# Altium integrated library BB Converter Data Acquisition System.IntLib: 55 symbols (part 1 of 2)
Pins are listed as number, name and electrical type; pins without a type are passive.

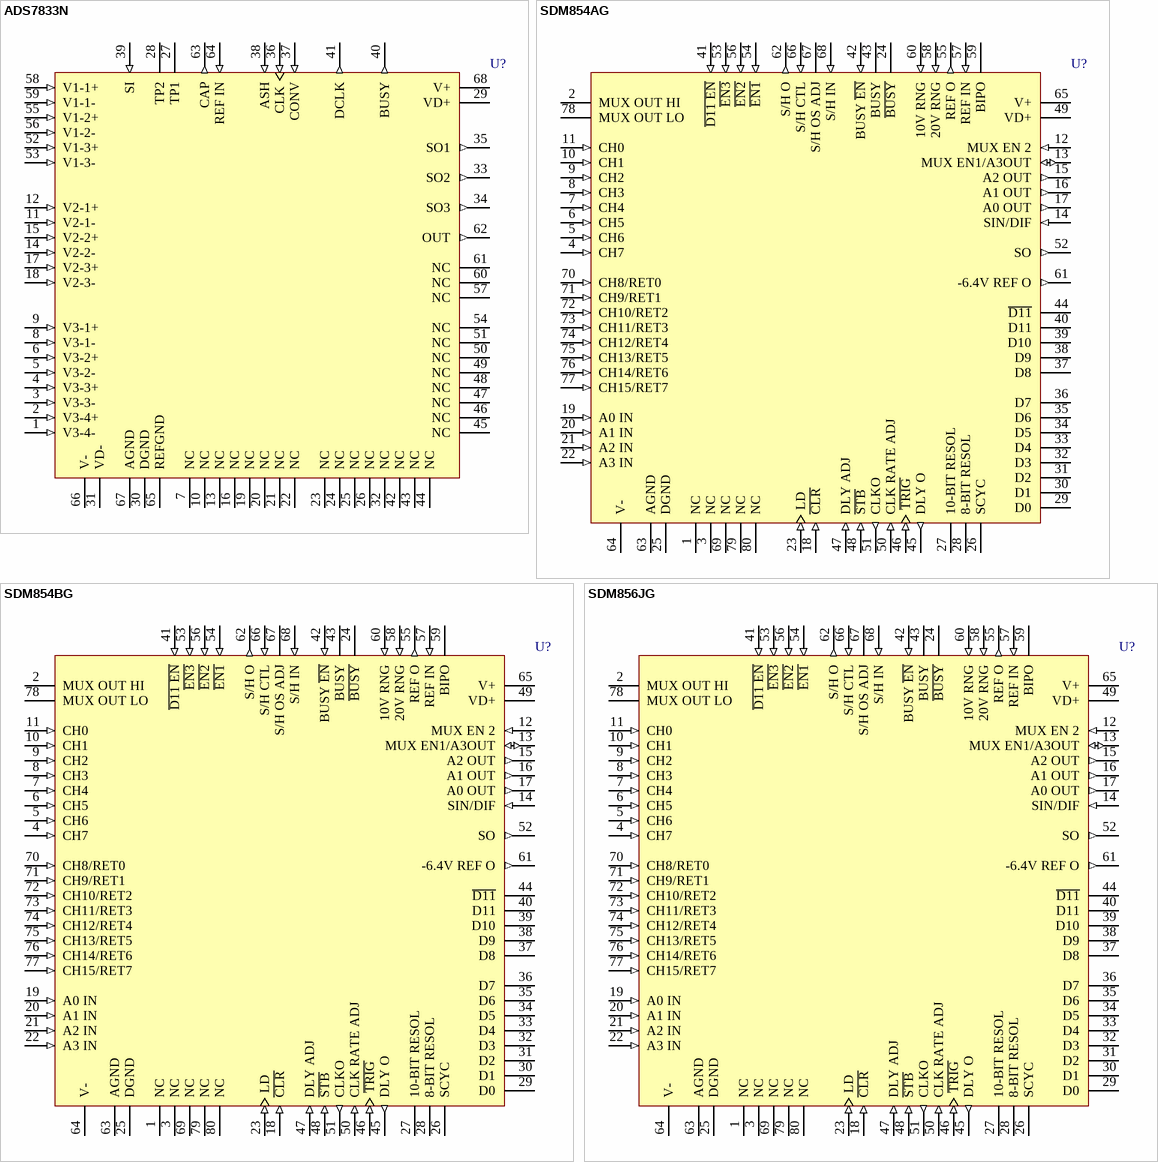
[diagram p0: symbols ADS7833N to SDM856JG]

## ADS7833N
designator U?
10-Channel, 12-Bit Data Acquisition System; Note: Pins 7, 10, 13, 16, 19-26, 32, 42-51, 54, 57, 60 and 61 are No internal Connection (NC) pins. Make no connection to 'Test Point' pins 27 and 28.; Published: 8-Jun-2000; LatestRevisionDate: 13-Apr-2006; LatestRevisionNote: IPC-7351 Footprint Added.; DatasheetVersion: 1996~1997; PackageVersion: 1994; PackageReference: 312-1; Publisher: Altium Limited; PackageDescription: 68-Pin Leaded Chip Carrier 1.27 mm Pitch; Code_IPC: PLCC-68; ComponentLink1Description: Manufacturer Link; ComponentLink1URL: http://www.ti.com/
footprint 312-1_N (Leaded Chip Carrier, 68-Leads, Body 24.2x24.2mm, Pitch 1.27mm, IPC Medium Density)
footprint 312-1_L (Leaded Chip Carrier, 68-Leads, Body 24.2x24.2mm, Pitch 1.27mm, IPC High Density)
footprint 312-1_M (Leaded Chip Carrier, 68-Leads, Body 24.2x24.2mm, Pitch 1.27mm, IPC Low Density)
3D model ADS7833N-LCC68 (68-Pin Leaded Chip Carrier 1.27 mm Pitch)
pins: 1 V3-4- (in), 2 V3-4+ (in), 3 V3-3- (in), 4 V3-3+ (in), 5 V3-2- (in), 6 V3-2+ (in), 7 NC, 8 V3-1- (in), 9 V3-1+ (in), 10 NC, 11 V2-1- (in), 12 V2-1+ (in), 13 NC, 14 V2-2- (in), 15 V2-2+ (in), 16 NC, 17 V2-3+ (in), 18 V2-3- (in), 19 NC, 20 NC, 21 NC, 22 NC, 23 NC, 24 NC, 25 NC, 26 NC, 27 TP1, 28 TP2, 29 VD+ (power), 30 DGND (power), 31 VD- (power), 32 NC, 33 SO2 (out), 34 SO3 (out), 35 SO1 (out), 36 CLK (in), 37 CONV (in), 38 ASH (in), 39 SI (in), 40 BUSY (out), 41 DCLK (out), 42 NC, 43 NC, 44 NC, 45 NC, 46 NC, 47 NC, 48 NC, 49 NC, 50 NC, 51 NC, 52 V1-3+ (in), 53 V1-3- (in), 54 NC, 55 V1-2+ (in), 56 V1-2- (in), 57 NC, 58 V1-1+ (in), 59 V1-1- (in), 60 NC, 61 NC, 62 OUT (out), 63 CAP (out), 64 REF IN (in), 65 REFGND (power), 66 V- (power), 67 AGND (power), 68 V+ (power)

## SDM854AG
designator U?
Hybrid Data Acquisition System; Note: Pins 1, 3, 27, 69, 79 and 80 are No internal Connection (NC) pins.; Published: 8-Jun-2000; LatestRevisionDate: 06-Jun-2005; LatestRevisionNote: Stylized 3D Model Added.; DatasheetVersion: Apr-1990; PackageReference: QUIP80; Publisher: Altium Limited; PackageDescription: QUIP; 80 Leads, in two Staggered Rows, each of 2.54 mm pitch; ComponentLink1Description: Manufacturer Link; ComponentLink1URL: http://www.ti.com/
footprint QUIP80 (QUIP; 80 Leads, in two Staggered Rows, each of 27.94 mm pitch)
3D model QUIP80 (QUIP; 80 Leads, in two Staggered Rows, each of 2.54 mm pitch)
pins: 1 NC, 2 MUX OUT HI, 3 NC, 4 CH7 (in), 5 CH6 (in), 6 CH5 (in), 7 CH4 (in), 8 CH3 (in), 9 CH2 (in), 10 CH1 (in), 11 CH0 (in), 12 MUX EN 2 (in), 13 MUX EN1/A3OUT (io), 14 SIN/DIF (in), 15 A2 OUT (out), 16 A1 OUT (out), 17 A0 OUT (out), 18 ~{CLR} (in), 19 A0 IN (in), 20 A1 IN (in), 21 A2 IN (in), 22 A3 IN (in), 23 LD (in), 24 ~{BUSY} (hiz), 25 DGND (power), 26 SCYC, 27 10-BIT RESOL, 28 8-BIT RESOL, 29 D0 (hiz), 30 D1 (hiz), 31 D2 (hiz), 32 D3 (hiz), 33 D4 (hiz), 34 D5 (hiz), 35 D6 (hiz), 36 D7 (hiz), 37 D8 (hiz), 38 D9 (hiz), 39 D10 (hiz), 40 D11 (hiz), 41 ~{D11 EN} (in), 42 BUSY ~{EN} (in), 43 BUSY (hiz), 44 ~{D11} (hiz), 45 DLY O (out), 46 ~{TRIG} (in), 47 DLY ADJ (in), 48 ~{STB} (in), 49 VD+ (power), 50 CLK RATE ADJ (in), 51 CLKO (out), 52 SO (out), 53 ~{EN3} (in), 54 ~{EN1} (in), 55 REF O (out), 56 ~{EN2} (in), 57 REF IN (in), 58 20V RNG (in), 59 BIPO, 60 10V RNG (in), 61 -6.4V REF O (out), 62 S/H O (out), 63 AGND (power), 64 V- (power), 65 V+ (power), 66 S/H CTL (in), 67 S/H OS ADJ, 68 S/H IN (in), 69 NC, 70 CH8/RET0 (in), 71 CH9/RET1 (in), 72 CH10/RET2 (in), 73 CH11/RET3 (in), 74 CH12/RET4 (in), 75 CH13/RET5 (in), 76 CH14/RET6 (in), 77 CH15/RET7 (in), 78 MUX OUT LO, 79 NC, 80 NC

## SDM854BG
designator U?
Hybrid Data Acquisition System; Note: Pins 1, 3, 27, 69, 79 and 80 are No internal Connection (NC) pins.; Published: 8-Jun-2000; LatestRevisionDate: 06-Jun-2005; LatestRevisionNote: Stylized 3D Model Added.; DatasheetVersion: Apr-1990; PackageReference: QUIP80; Publisher: Altium Limited; PackageDescription: QUIP; 80 Leads, in two Staggered Rows, each of 2.54 mm pitch; ComponentLink1Description: Manufacturer Link; ComponentLink1URL: http://www.ti.com/
footprint QUIP80 (QUIP; 80 Leads, in two Staggered Rows, each of 27.94 mm pitch)
3D model QUIP80 (QUIP; 80 Leads, in two Staggered Rows, each of 2.54 mm pitch)
pins: 1 NC, 2 MUX OUT HI, 3 NC, 4 CH7 (in), 5 CH6 (in), 6 CH5 (in), 7 CH4 (in), 8 CH3 (in), 9 CH2 (in), 10 CH1 (in), 11 CH0 (in), 12 MUX EN 2 (in), 13 MUX EN1/A3OUT (io), 14 SIN/DIF (in), 15 A2 OUT (out), 16 A1 OUT (out), 17 A0 OUT (out), 18 ~{CLR} (in), 19 A0 IN (in), 20 A1 IN (in), 21 A2 IN (in), 22 A3 IN (in), 23 LD (in), 24 ~{BUSY} (hiz), 25 DGND (power), 26 SCYC, 27 10-BIT RESOL, 28 8-BIT RESOL, 29 D0 (hiz), 30 D1 (hiz), 31 D2 (hiz), 32 D3 (hiz), 33 D4 (hiz), 34 D5 (hiz), 35 D6 (hiz), 36 D7 (hiz), 37 D8 (hiz), 38 D9 (hiz), 39 D10 (hiz), 40 D11 (hiz), 41 ~{D11 EN} (in), 42 BUSY ~{EN} (in), 43 BUSY (hiz), 44 ~{D11} (hiz), 45 DLY O (out), 46 ~{TRIG} (in), 47 DLY ADJ (in), 48 ~{STB} (in), 49 VD+ (power), 50 CLK RATE ADJ (in), 51 CLKO (out), 52 SO (out), 53 ~{EN3} (in), 54 ~{EN1} (in), 55 REF O (out), 56 ~{EN2} (in), 57 REF IN (in), 58 20V RNG (in), 59 BIPO, 60 10V RNG (in), 61 -6.4V REF O (out), 62 S/H O (out), 63 AGND (power), 64 V- (power), 65 V+ (power), 66 S/H CTL (in), 67 S/H OS ADJ, 68 S/H IN (in), 69 NC, 70 CH8/RET0 (in), 71 CH9/RET1 (in), 72 CH10/RET2 (in), 73 CH11/RET3 (in), 74 CH12/RET4 (in), 75 CH13/RET5 (in), 76 CH14/RET6 (in), 77 CH15/RET7 (in), 78 MUX OUT LO, 79 NC, 80 NC

## SDM856JG
designator U?
Hybrid Data Acquisition System; Note: Pins 1, 3, 69, 79 and 80 are No internal Connection (NC) pins.; Published: 8-Jun-2000; LatestRevisionDate: 06-Jun-2005; LatestRevisionNote: Stylized 3D Model Added.; DatasheetVersion: Aug-1987; PackageReference: QUIP80; Publisher: Altium Limited; PackageDescription: QUIP; 80 Leads, in two Staggered Rows, each of 2.54 mm pitch; ComponentLink1Description: Manufacturer Link; ComponentLink1URL: http://www.ti.com/
footprint QUIP80 (QUIP; 80 Leads, in two Staggered Rows, each of 27.94 mm pitch)
3D model QUIP80 (QUIP; 80 Leads, in two Staggered Rows, each of 2.54 mm pitch)
pins: 1 NC, 2 MUX OUT HI, 3 NC, 4 CH7 (in), 5 CH6 (in), 6 CH5 (in), 7 CH4 (in), 8 CH3 (in), 9 CH2 (in), 10 CH1 (in), 11 CH0 (in), 12 MUX EN 2 (in), 13 MUX EN1/A3OUT (io), 14 SIN/DIF (in), 15 A2 OUT (out), 16 A1 OUT (out), 17 A0 OUT (out), 18 ~{CLR} (in), 19 A0 IN (in), 20 A1 IN (in), 21 A2 IN (in), 22 A3 IN (in), 23 LD (in), 24 ~{BUSY} (hiz), 25 DGND (power), 26 SCYC, 27 10-BIT RESOL, 28 8-BIT RESOL, 29 D0 (hiz), 30 D1 (hiz), 31 D2 (hiz), 32 D3 (hiz), 33 D4 (hiz), 34 D5 (hiz), 35 D6 (hiz), 36 D7 (hiz), 37 D8 (hiz), 38 D9 (hiz), 39 D10 (hiz), 40 D11 (hiz), 41 ~{D11 EN} (in), 42 BUSY ~{EN} (in), 43 BUSY (hiz), 44 ~{D11} (hiz), 45 DLY O (out), 46 ~{TRIG} (in), 47 DLY ADJ (in), 48 ~{STB} (in), 49 VD+ (power), 50 CLK RATE ADJ (in), 51 CLKO (out), 52 SO (out), 53 ~{EN3} (in), 54 ~{EN1} (in), 55 REF O (out), 56 ~{EN2} (in), 57 REF IN (in), 58 20V RNG (in), 59 BIPO, 60 10V RNG (in), 61 -6.4V REF O (out), 62 S/H O (out), 63 AGND (power), 64 V- (power), 65 V+ (power), 66 S/H CTL (in), 67 S/H OS ADJ, 68 S/H IN (in), 69 NC, 70 CH8/RET0 (in), 71 CH9/RET1 (in), 72 CH10/RET2 (in), 73 CH11/RET3 (in), 74 CH12/RET4 (in), 75 CH13/RET5 (in), 76 CH14/RET6 (in), 77 CH15/RET7 (in), 78 MUX OUT LO, 79 NC, 80 NC

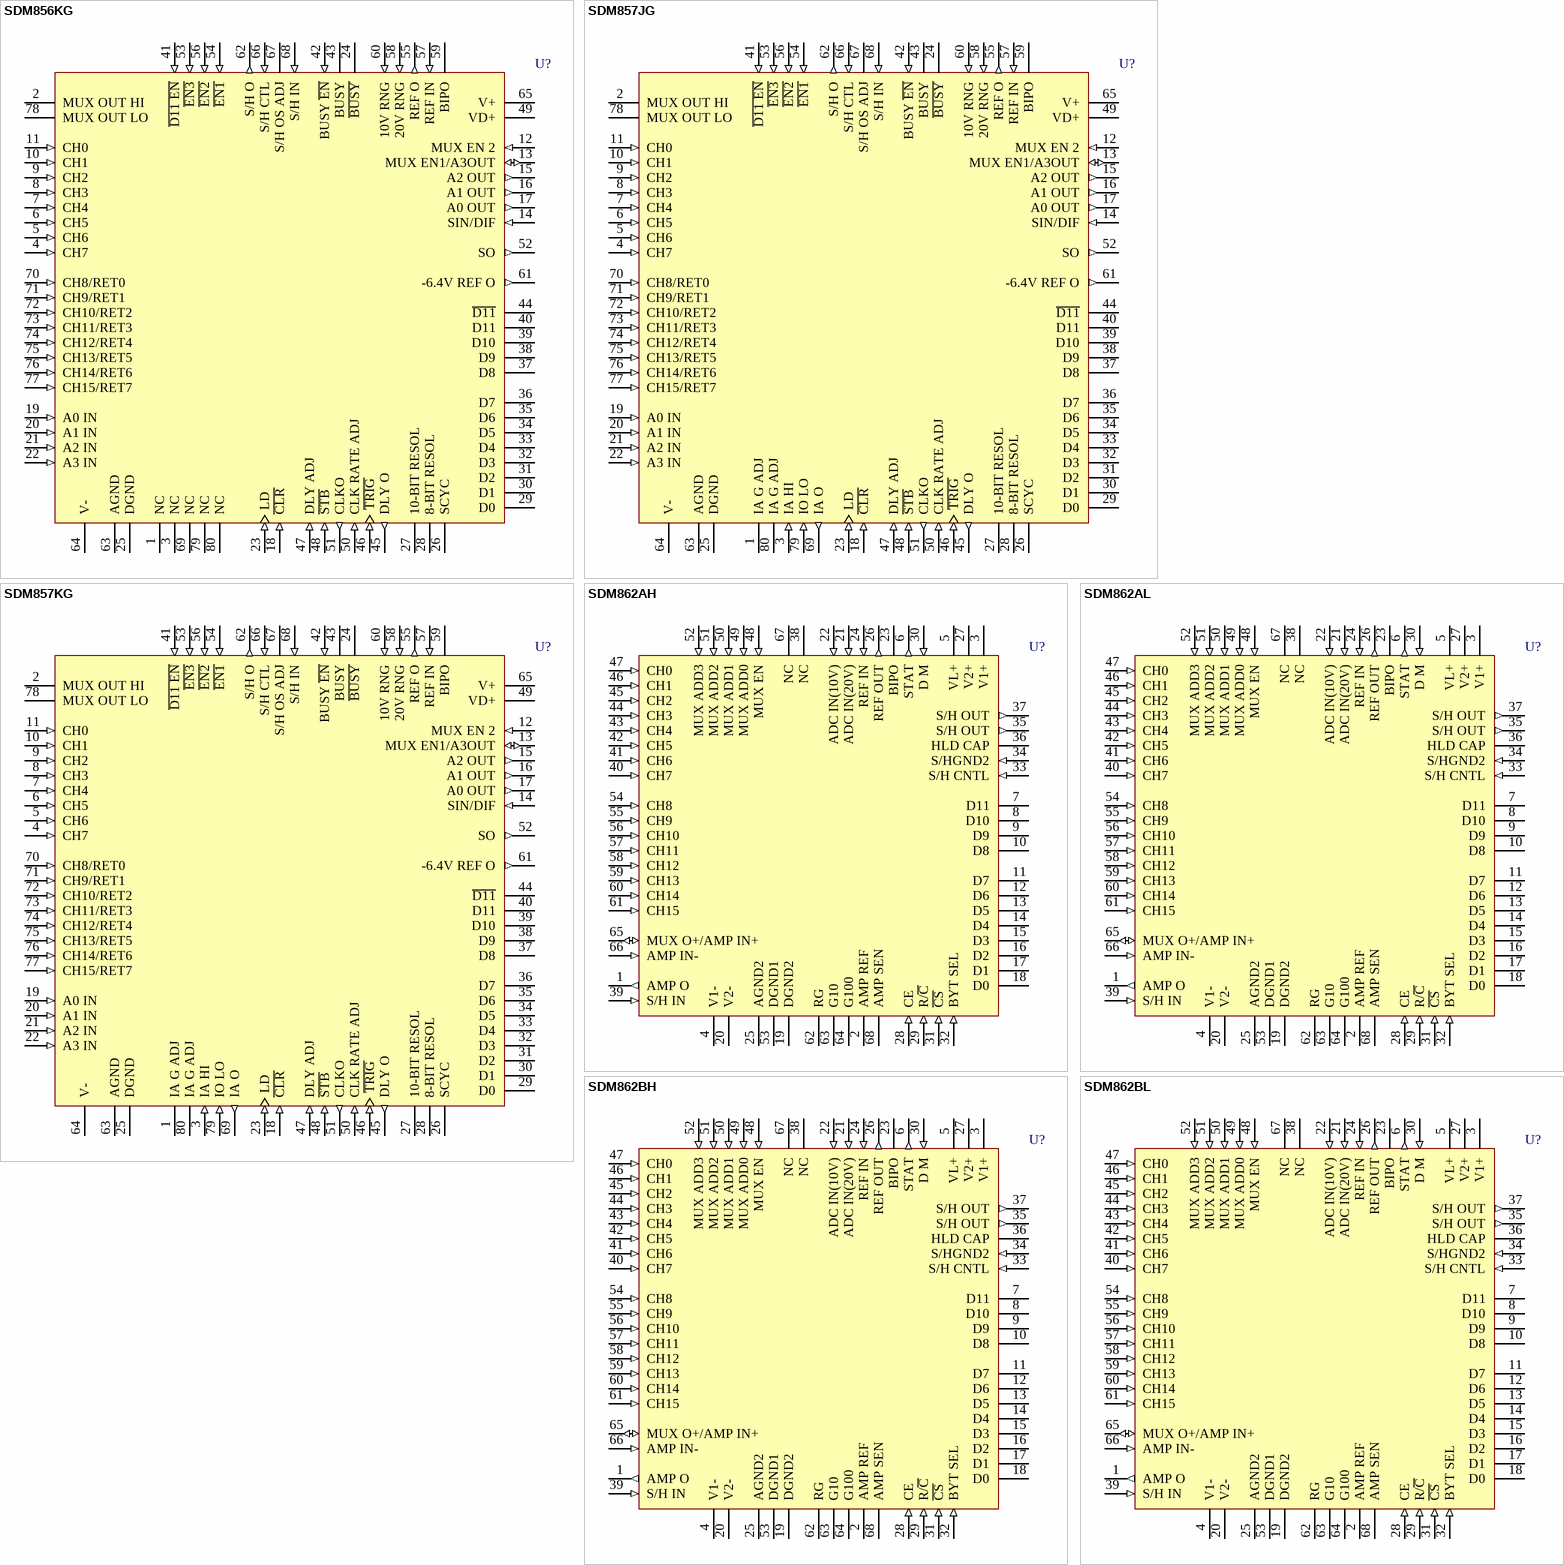
[diagram p1: symbols SDM856KG to SDM862BL]

## SDM856KG
designator U?
Hybrid Data Acquisition System; Note: Pins 1, 3, 69, 79 and 80 are No internal Connection (NC) pins.; Published: 8-Jun-2000; LatestRevisionDate: 06-Jun-2005; LatestRevisionNote: Stylized 3D Model Added.; DatasheetVersion: Aug-1987; PackageReference: QUIP80; Publisher: Altium Limited; PackageDescription: QUIP; 80 Leads, in two Staggered Rows, each of 2.54 mm pitch; ComponentLink1Description: Manufacturer Link; ComponentLink1URL: http://www.ti.com/
footprint QUIP80 (QUIP; 80 Leads, in two Staggered Rows, each of 27.94 mm pitch)
3D model QUIP80 (QUIP; 80 Leads, in two Staggered Rows, each of 2.54 mm pitch)
pins: 1 NC, 2 MUX OUT HI, 3 NC, 4 CH7 (in), 5 CH6 (in), 6 CH5 (in), 7 CH4 (in), 8 CH3 (in), 9 CH2 (in), 10 CH1 (in), 11 CH0 (in), 12 MUX EN 2 (in), 13 MUX EN1/A3OUT (io), 14 SIN/DIF (in), 15 A2 OUT (out), 16 A1 OUT (out), 17 A0 OUT (out), 18 ~{CLR} (in), 19 A0 IN (in), 20 A1 IN (in), 21 A2 IN (in), 22 A3 IN (in), 23 LD (in), 24 ~{BUSY} (hiz), 25 DGND (power), 26 SCYC, 27 10-BIT RESOL, 28 8-BIT RESOL, 29 D0 (hiz), 30 D1 (hiz), 31 D2 (hiz), 32 D3 (hiz), 33 D4 (hiz), 34 D5 (hiz), 35 D6 (hiz), 36 D7 (hiz), 37 D8 (hiz), 38 D9 (hiz), 39 D10 (hiz), 40 D11 (hiz), 41 ~{D11 EN} (in), 42 BUSY ~{EN} (in), 43 BUSY (hiz), 44 ~{D11} (hiz), 45 DLY O (out), 46 ~{TRIG} (in), 47 DLY ADJ (in), 48 ~{STB} (in), 49 VD+ (power), 50 CLK RATE ADJ (in), 51 CLKO (out), 52 SO (out), 53 ~{EN3} (in), 54 ~{EN1} (in), 55 REF O (out), 56 ~{EN2} (in), 57 REF IN (in), 58 20V RNG (in), 59 BIPO, 60 10V RNG (in), 61 -6.4V REF O (out), 62 S/H O (out), 63 AGND (power), 64 V- (power), 65 V+ (power), 66 S/H CTL (in), 67 S/H OS ADJ, 68 S/H IN (in), 69 NC, 70 CH8/RET0 (in), 71 CH9/RET1 (in), 72 CH10/RET2 (in), 73 CH11/RET3 (in), 74 CH12/RET4 (in), 75 CH13/RET5 (in), 76 CH14/RET6 (in), 77 CH15/RET7 (in), 78 MUX OUT LO, 79 NC, 80 NC

## SDM857JG
designator U?
Hybrid Data Acquisition System; Note: Pins 14, 27, 28, 41, 44, 47, 60 and 61 are No internal Connection (NC) pins.; Published: 8-Jun-2000; LatestRevisionDate: 06-Jun-2005; LatestRevisionNote: Stylized 3D Model Added.; DatasheetVersion: Aug-1987; PackageReference: QUIP80; Publisher: Altium Limited; PackageDescription: QUIP; 80 Leads, in two Staggered Rows, each of 2.54 mm pitch; ComponentLink1Description: Manufacturer Link; ComponentLink1URL: http://www.ti.com/
footprint QUIP80 (QUIP; 80 Leads, in two Staggered Rows, each of 27.94 mm pitch)
3D model QUIP80 (QUIP; 80 Leads, in two Staggered Rows, each of 2.54 mm pitch)
pins: 1 IA G ADJ, 2 MUX OUT HI, 3 IA HI (in), 4 CH7 (in), 5 CH6 (in), 6 CH5 (in), 7 CH4 (in), 8 CH3 (in), 9 CH2 (in), 10 CH1 (in), 11 CH0 (in), 12 MUX EN 2 (in), 13 MUX EN1/A3OUT (io), 14 SIN/DIF (in), 15 A2 OUT (out), 16 A1 OUT (out), 17 A0 OUT (out), 18 ~{CLR} (in), 19 A0 IN (in), 20 A1 IN (in), 21 A2 IN (in), 22 A3 IN (in), 23 LD (in), 24 ~{BUSY} (hiz), 25 DGND (power), 26 SCYC, 27 10-BIT RESOL, 28 8-BIT RESOL, 29 D0 (hiz), 30 D1 (hiz), 31 D2 (hiz), 32 D3 (hiz), 33 D4 (hiz), 34 D5 (hiz), 35 D6 (hiz), 36 D7 (hiz), 37 D8 (hiz), 38 D9 (hiz), 39 D10 (hiz), 40 D11 (hiz), 41 ~{D11 EN} (in), 42 BUSY ~{EN} (in), 43 BUSY (hiz), 44 ~{D11} (hiz), 45 DLY O (out), 46 ~{TRIG} (in), 47 DLY ADJ (in), 48 ~{STB} (in), 49 VD+ (power), 50 CLK RATE ADJ (in), 51 CLKO (out), 52 SO (out), 53 ~{EN3} (in), 54 ~{EN1} (in), 55 REF O (out), 56 ~{EN2} (in), 57 REF IN (in), 58 20V RNG (in), 59 BIPO, 60 10V RNG (in), 61 -6.4V REF O (out), 62 S/H O (out), 63 AGND (power), 64 V- (power), 65 V+ (power), 66 S/H CTL (in), 67 S/H OS ADJ, 68 S/H IN (in), 69 IA O (out), 70 CH8/RET0 (in), 71 CH9/RET1 (in), 72 CH10/RET2 (in), 73 CH11/RET3 (in), 74 CH12/RET4 (in), 75 CH13/RET5 (in), 76 CH14/RET6 (in), 77 CH15/RET7 (in), 78 MUX OUT LO, 79 IO LO (in), 80 IA G ADJ

## SDM857KG
designator U?
Hybrid Data Acquisition System; Note: Pins 14, 27, 28, 41, 44, 47, 60 and 61 are No internal Connection (NC) pins.; Published: 8-Jun-2000; LatestRevisionDate: 06-Jun-2005; LatestRevisionNote: Stylized 3D Model Added.; DatasheetVersion: Aug-1987; PackageReference: QUIP80; Publisher: Altium Limited; PackageDescription: QUIP; 80 Leads, in two Staggered Rows, each of 2.54 mm pitch; ComponentLink1Description: Manufacturer Link; ComponentLink1URL: http://www.ti.com/
footprint QUIP80 (QUIP; 80 Leads, in two Staggered Rows, each of 27.94 mm pitch)
3D model QUIP80 (QUIP; 80 Leads, in two Staggered Rows, each of 2.54 mm pitch)
pins: 1 IA G ADJ, 2 MUX OUT HI, 3 IA HI (in), 4 CH7 (in), 5 CH6 (in), 6 CH5 (in), 7 CH4 (in), 8 CH3 (in), 9 CH2 (in), 10 CH1 (in), 11 CH0 (in), 12 MUX EN 2 (in), 13 MUX EN1/A3OUT (io), 14 SIN/DIF (in), 15 A2 OUT (out), 16 A1 OUT (out), 17 A0 OUT (out), 18 ~{CLR} (in), 19 A0 IN (in), 20 A1 IN (in), 21 A2 IN (in), 22 A3 IN (in), 23 LD (in), 24 ~{BUSY} (hiz), 25 DGND (power), 26 SCYC, 27 10-BIT RESOL, 28 8-BIT RESOL, 29 D0 (hiz), 30 D1 (hiz), 31 D2 (hiz), 32 D3 (hiz), 33 D4 (hiz), 34 D5 (hiz), 35 D6 (hiz), 36 D7 (hiz), 37 D8 (hiz), 38 D9 (hiz), 39 D10 (hiz), 40 D11 (hiz), 41 ~{D11 EN} (in), 42 BUSY ~{EN} (in), 43 BUSY (hiz), 44 ~{D11} (hiz), 45 DLY O (out), 46 ~{TRIG} (in), 47 DLY ADJ (in), 48 ~{STB} (in), 49 VD+ (power), 50 CLK RATE ADJ (in), 51 CLKO (out), 52 SO (out), 53 ~{EN3} (in), 54 ~{EN1} (in), 55 REF O (out), 56 ~{EN2} (in), 57 REF IN (in), 58 20V RNG (in), 59 BIPO, 60 10V RNG (in), 61 -6.4V REF O (out), 62 S/H O (out), 63 AGND (power), 64 V- (power), 65 V+ (power), 66 S/H CTL (in), 67 S/H OS ADJ, 68 S/H IN (in), 69 IA O (out), 70 CH8/RET0 (in), 71 CH9/RET1 (in), 72 CH10/RET2 (in), 73 CH11/RET3 (in), 74 CH12/RET4 (in), 75 CH13/RET5 (in), 76 CH14/RET6 (in), 77 CH15/RET7 (in), 78 MUX OUT LO, 79 IO LO (in), 80 IA G ADJ

## SDM862AH
designator U?
16 Single Ended 12-Bit Data Acquisition Systems; Note: Pin 38 is No internal Connection (NC) pin.; Published: 8-Jun-2000; LatestRevisionDate: 06-Jun-2005; LatestRevisionNote: Stylized 3D Model Added.; DatasheetVersion: 1996~1997; PackageReference: 906; Publisher: Altium Limited; PackageDescription: Leadless Chip Carrier; 68 Terminals; Body 24.3 x 24.3 mm; ComponentLink1Description: Manufacturer Link; ComponentLink1URL: http://www.ti.com/
footprint 906 (Leadless Chip Carrier; 68 Terminals; Body 24.3 x 24.3 mm)
3D model SDM862A-LCC68 (Leadless Chip Carrier; 68 Terminals; Body 24.3 x 24.3 mm)
pins: 1 AMP O (out), 2 AMP REF, 3 V1+ (power), 4 V1- (power), 5 VL+ (power), 6 STAT (out), 7 D11 (hiz), 8 D10 (hiz), 9 D9 (hiz), 10 D8 (hiz), 11 D7 (hiz), 12 D6 (hiz), 13 D5 (hiz), 14 D4 (hiz), 15 D3 (hiz), 16 D2 (hiz), 17 D1 (hiz), 18 D0 (hiz), 19 DGND2 (power), 20 V2- (power), 21 ADC IN(20V) (in), 22 ADC IN(10V) (in), 23 BIPO, 24 REF IN (in), 25 AGND2 (power), 26 REF OUT (out), 27 V2+ (power), 28 CE (in), 29 R/~{C} (in), 30 D M (in), 31 ~{CS} (in), 32 BYT SEL (in), 33 S/H CNTL (in), 34 S/HGND2 (in), 35 S/H OUT (out), 36 HLD CAP, 37 S/H OUT (out), 38 NC, 39 S/H IN (in), 40 CH7 (in), 41 CH6 (in), 42 CH5 (in), 43 CH4 (in), 44 CH3 (in), 45 CH2 (in), 46 CH1 (in), 47 CH0 (in), 48 MUX EN (in), 49 MUX ADD0 (in), 50 MUX ADD1 (in), 51 MUX ADD2 (in), 52 MUX ADD3 (in), 53 DGND1 (power), 54 CH8 (in), 55 CH9 (in), 56 CH10 (in), 57 CH11 (in), 58 CH12 (in), 59 CH13 (in), 60 CH14 (in), 61 CH15 (in), 62 RG, 63 G10, 64 G100, 65 MUX O+/AMP IN+ (io), 66 AMP IN- (in), 67 NC, 68 AMP SEN

## SDM862AL
designator U?
16 Single Ended 12-Bit Data Acquisition Systems; Note: Pin 38 is No internal Connection (NC) pin.; Published: 8-Jun-2000; LatestRevisionDate: 06-Jun-2005; LatestRevisionNote: Stylized 3D Model Added.; DatasheetVersion: 1996~1997; PackageReference: ZZ907; Publisher: Altium Limited; PackageDescription: 68-Pin Pin Grid Array 2.54 mm Pitch; ComponentLink1Description: Manufacturer Link; ComponentLink1URL: http://www.ti.com/
footprint ZZ907 (PGA, 68-Leads, Body 28x28mm, Pitch 2.54mm)
3D model SDM862A-PGA68 (68-Pin Pin Grid Array 2.54 mm Pitch)
pins: 1 AMP O (out), 2 AMP REF, 3 V1+ (power), 4 V1- (power), 5 VL+ (power), 6 STAT (out), 7 D11 (hiz), 8 D10 (hiz), 9 D9 (hiz), 10 D8 (hiz), 11 D7 (hiz), 12 D6 (hiz), 13 D5 (hiz), 14 D4 (hiz), 15 D3 (hiz), 16 D2 (hiz), 17 D1 (hiz), 18 D0 (hiz), 19 DGND2 (power), 20 V2- (power), 21 ADC IN(20V) (in), 22 ADC IN(10V) (in), 23 BIPO, 24 REF IN (in), 25 AGND2 (power), 26 REF OUT (out), 27 V2+ (power), 28 CE (in), 29 R/~{C} (in), 30 D M (in), 31 ~{CS} (in), 32 BYT SEL (in), 33 S/H CNTL (in), 34 S/HGND2 (in), 35 S/H OUT (out), 36 HLD CAP, 37 S/H OUT (out), 38 NC, 39 S/H IN (in), 40 CH7 (in), 41 CH6 (in), 42 CH5 (in), 43 CH4 (in), 44 CH3 (in), 45 CH2 (in), 46 CH1 (in), 47 CH0 (in), 48 MUX EN (in), 49 MUX ADD0 (in), 50 MUX ADD1 (in), 51 MUX ADD2 (in), 52 MUX ADD3 (in), 53 DGND1 (power), 54 CH8 (in), 55 CH9 (in), 56 CH10 (in), 57 CH11 (in), 58 CH12 (in), 59 CH13 (in), 60 CH14 (in), 61 CH15 (in), 62 RG, 63 G10, 64 G100, 65 MUX O+/AMP IN+ (io), 66 AMP IN- (in), 67 NC, 68 AMP SEN

## SDM862BH
designator U?
16 Single Ended 12-Bit Data Acquisition Systems; Note: Pin 38 is No internal Connection (NC) pin.; Published: 8-Jun-2000; LatestRevisionDate: 06-Jun-2005; LatestRevisionNote: Stylized 3D Model Added.; DatasheetVersion: 1996~1997; PackageReference: 906; Publisher: Altium Limited; PackageDescription: Leadless Chip Carrier; 68 Terminals; Body 24.3 x 24.3 mm; ComponentLink1Description: Manufacturer Link; ComponentLink1URL: http://www.ti.com/
footprint 906 (Leadless Chip Carrier; 68 Terminals; Body 24.3 x 24.3 mm)
3D model SDM862B-LCC68 (Leadless Chip Carrier; 68 Terminals; Body 24.3 x 24.3 mm)
pins: 1 AMP O (out), 2 AMP REF, 3 V1+ (power), 4 V1- (power), 5 VL+ (power), 6 STAT (out), 7 D11 (hiz), 8 D10 (hiz), 9 D9 (hiz), 10 D8 (hiz), 11 D7 (hiz), 12 D6 (hiz), 13 D5 (hiz), 14 D4 (hiz), 15 D3 (hiz), 16 D2 (hiz), 17 D1 (hiz), 18 D0 (hiz), 19 DGND2 (power), 20 V2- (power), 21 ADC IN(20V) (in), 22 ADC IN(10V) (in), 23 BIPO, 24 REF IN (in), 25 AGND2 (power), 26 REF OUT (out), 27 V2+ (power), 28 CE (in), 29 R/~{C} (in), 30 D M (in), 31 ~{CS} (in), 32 BYT SEL (in), 33 S/H CNTL (in), 34 S/HGND2 (in), 35 S/H OUT (out), 36 HLD CAP, 37 S/H OUT (out), 38 NC, 39 S/H IN (in), 40 CH7 (in), 41 CH6 (in), 42 CH5 (in), 43 CH4 (in), 44 CH3 (in), 45 CH2 (in), 46 CH1 (in), 47 CH0 (in), 48 MUX EN (in), 49 MUX ADD0 (in), 50 MUX ADD1 (in), 51 MUX ADD2 (in), 52 MUX ADD3 (in), 53 DGND1 (power), 54 CH8 (in), 55 CH9 (in), 56 CH10 (in), 57 CH11 (in), 58 CH12 (in), 59 CH13 (in), 60 CH14 (in), 61 CH15 (in), 62 RG, 63 G10, 64 G100, 65 MUX O+/AMP IN+ (io), 66 AMP IN- (in), 67 NC, 68 AMP SEN

## SDM862BL
designator U?
16 Single Ended 12-Bit Data Acquisition Systems; Note: Pin 38 is No internal Connection (NC) pin.; Published: 8-Jun-2000; LatestRevisionDate: 06-Jun-2005; LatestRevisionNote: Stylized 3D Model Added.; DatasheetVersion: 1996~1997; PackageReference: ZZ907; Publisher: Altium Limited; PackageDescription: 68-Pin Pin Grid Array 2.54 mm Pitch; ComponentLink1Description: Manufacturer Link; ComponentLink1URL: http://www.ti.com/
footprint ZZ907 (PGA, 68-Leads, Body 28x28mm, Pitch 2.54mm)
3D model SDM862B-PGA68 (68-Pin Pin Grid Array 2.54 mm Pitch)
pins: 1 AMP O (out), 2 AMP REF, 3 V1+ (power), 4 V1- (power), 5 VL+ (power), 6 STAT (out), 7 D11 (hiz), 8 D10 (hiz), 9 D9 (hiz), 10 D8 (hiz), 11 D7 (hiz), 12 D6 (hiz), 13 D5 (hiz), 14 D4 (hiz), 15 D3 (hiz), 16 D2 (hiz), 17 D1 (hiz), 18 D0 (hiz), 19 DGND2 (power), 20 V2- (power), 21 ADC IN(20V) (in), 22 ADC IN(10V) (in), 23 BIPO, 24 REF IN (in), 25 AGND2 (power), 26 REF OUT (out), 27 V2+ (power), 28 CE (in), 29 R/~{C} (in), 30 D M (in), 31 ~{CS} (in), 32 BYT SEL (in), 33 S/H CNTL (in), 34 S/HGND2 (in), 35 S/H OUT (out), 36 HLD CAP, 37 S/H OUT (out), 38 NC, 39 S/H IN (in), 40 CH7 (in), 41 CH6 (in), 42 CH5 (in), 43 CH4 (in), 44 CH3 (in), 45 CH2 (in), 46 CH1 (in), 47 CH0 (in), 48 MUX EN (in), 49 MUX ADD0 (in), 50 MUX ADD1 (in), 51 MUX ADD2 (in), 52 MUX ADD3 (in), 53 DGND1 (power), 54 CH8 (in), 55 CH9 (in), 56 CH10 (in), 57 CH11 (in), 58 CH12 (in), 59 CH13 (in), 60 CH14 (in), 61 CH15 (in), 62 RG, 63 G10, 64 G100, 65 MUX O+/AMP IN+ (io), 66 AMP IN- (in), 67 NC, 68 AMP SEN

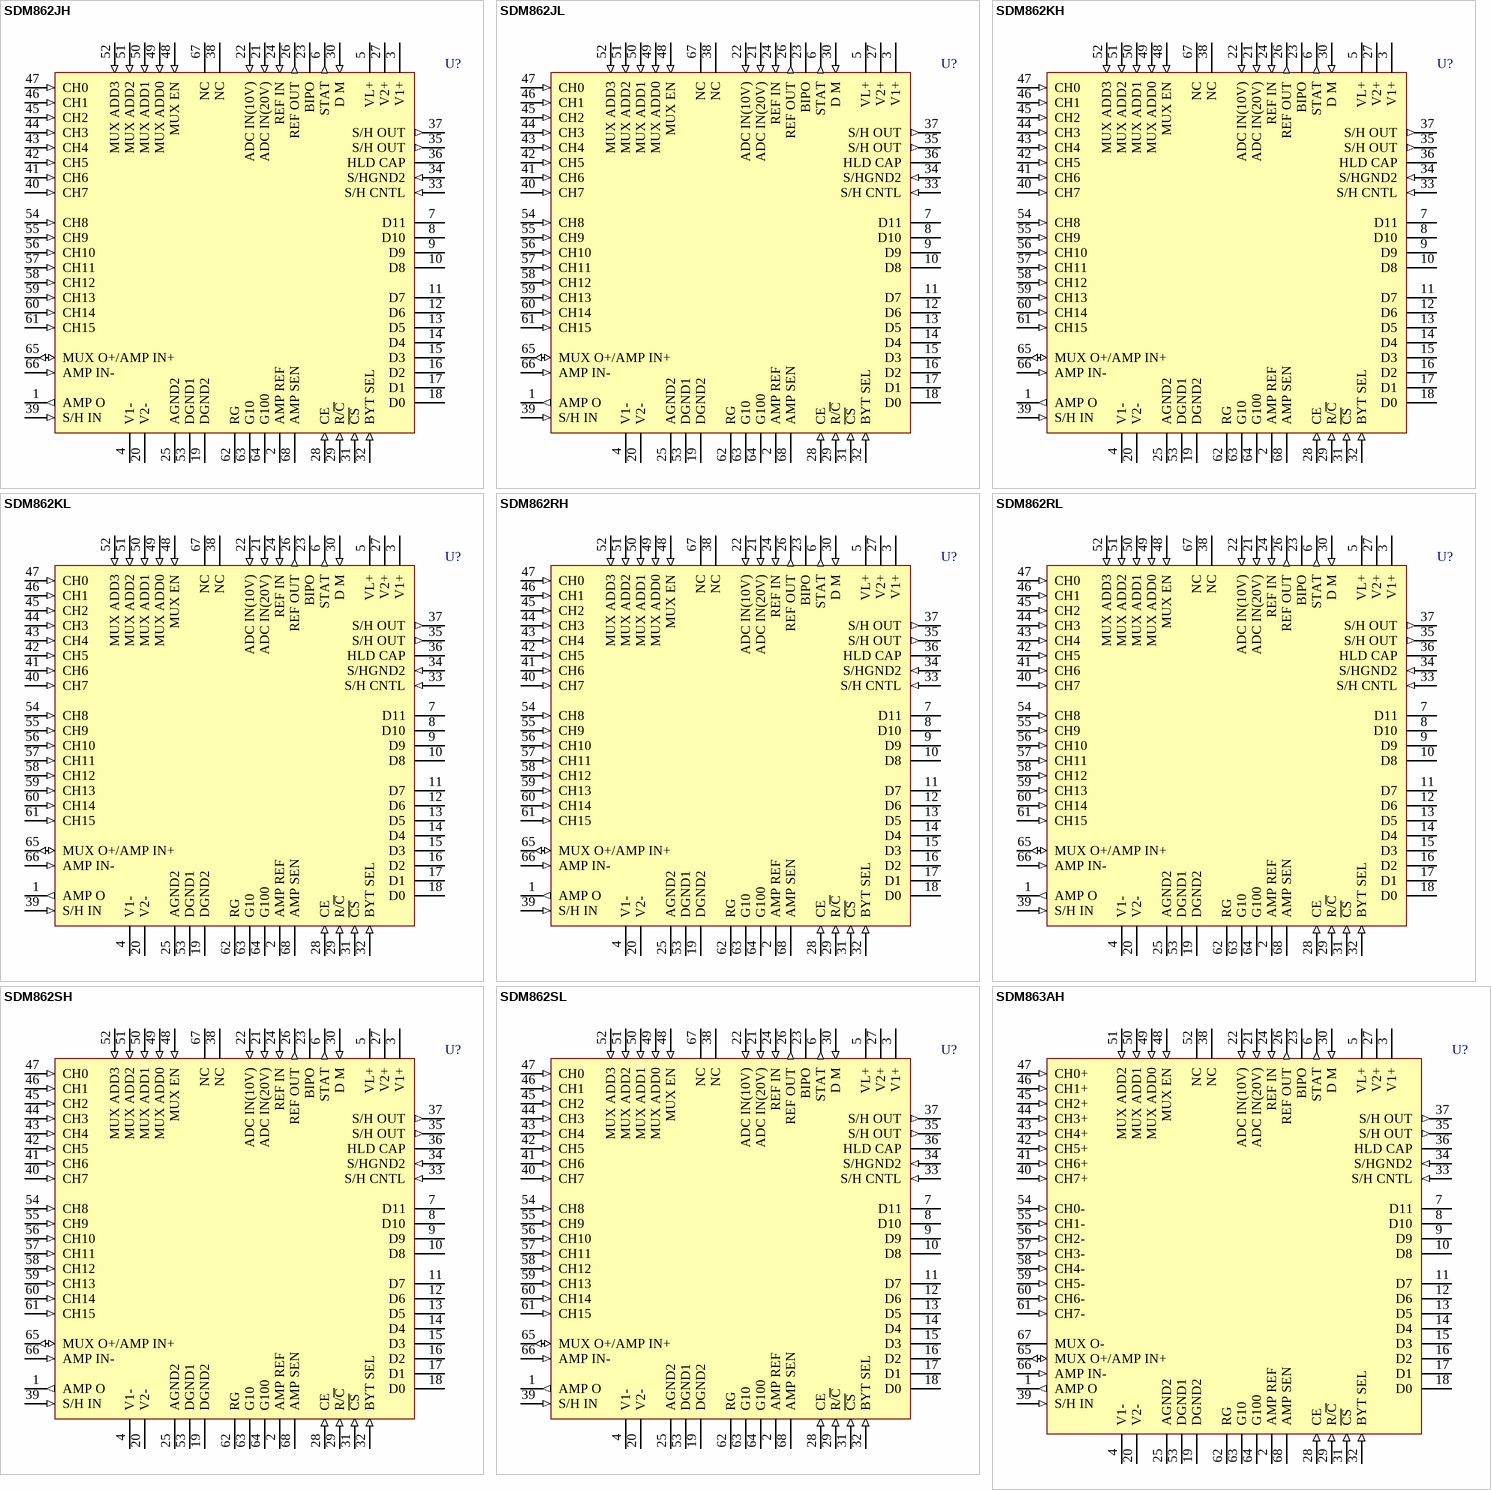
[diagram p2: symbols SDM862JH to SDM863AH]

## SDM862JH
designator U?
16 Single Ended 12-Bit Data Acquisition Systems; Note: Pin 38 is No internal Connection (NC) pin.; Published: 8-Jun-2000; LatestRevisionDate: 06-Jun-2005; LatestRevisionNote: Stylized 3D Model Added.; DatasheetVersion: 1996~1997; PackageReference: 906; Publisher: Altium Limited; PackageDescription: Leadless Chip Carrier; 68 Terminals; Body 24.3 x 24.3 mm; ComponentLink1Description: Manufacturer Link; ComponentLink1URL: http://www.ti.com/
footprint 906 (Leadless Chip Carrier; 68 Terminals; Body 24.3 x 24.3 mm)
3D model SDM862J-LCC68 (Leadless Chip Carrier; 68 Terminals; Body 24.3 x 24.3 mm)
pins: 1 AMP O (out), 2 AMP REF, 3 V1+ (power), 4 V1- (power), 5 VL+ (power), 6 STAT (out), 7 D11 (hiz), 8 D10 (hiz), 9 D9 (hiz), 10 D8 (hiz), 11 D7 (hiz), 12 D6 (hiz), 13 D5 (hiz), 14 D4 (hiz), 15 D3 (hiz), 16 D2 (hiz), 17 D1 (hiz), 18 D0 (hiz), 19 DGND2 (power), 20 V2- (power), 21 ADC IN(20V) (in), 22 ADC IN(10V) (in), 23 BIPO, 24 REF IN (in), 25 AGND2 (power), 26 REF OUT (out), 27 V2+ (power), 28 CE (in), 29 R/~{C} (in), 30 D M (in), 31 ~{CS} (in), 32 BYT SEL (in), 33 S/H CNTL (in), 34 S/HGND2 (in), 35 S/H OUT (out), 36 HLD CAP, 37 S/H OUT (out), 38 NC, 39 S/H IN (in), 40 CH7 (in), 41 CH6 (in), 42 CH5 (in), 43 CH4 (in), 44 CH3 (in), 45 CH2 (in), 46 CH1 (in), 47 CH0 (in), 48 MUX EN (in), 49 MUX ADD0 (in), 50 MUX ADD1 (in), 51 MUX ADD2 (in), 52 MUX ADD3 (in), 53 DGND1 (power), 54 CH8 (in), 55 CH9 (in), 56 CH10 (in), 57 CH11 (in), 58 CH12 (in), 59 CH13 (in), 60 CH14 (in), 61 CH15 (in), 62 RG, 63 G10, 64 G100, 65 MUX O+/AMP IN+ (io), 66 AMP IN- (in), 67 NC, 68 AMP SEN

## SDM862JL
designator U?
16 Single Ended 12-Bit Data Acquisition Systems; Note: Pin 38 is No internal Connection (NC) pin.; Published: 8-Jun-2000; LatestRevisionDate: 06-Jun-2005; LatestRevisionNote: Stylized 3D Model Added.; DatasheetVersion: 1996~1997; PackageReference: ZZ907; Publisher: Altium Limited; PackageDescription: 68-Pin Pin Grid Array 2.54 mm Pitch; ComponentLink1Description: Manufacturer Link; ComponentLink1URL: http://www.ti.com/
footprint ZZ907 (PGA, 68-Leads, Body 28x28mm, Pitch 2.54mm)
3D model SDM862J-PGA68 (68-Pin Pin Grid Array 2.54 mm Pitch)
pins: 1 AMP O (out), 2 AMP REF, 3 V1+ (power), 4 V1- (power), 5 VL+ (power), 6 STAT (out), 7 D11 (hiz), 8 D10 (hiz), 9 D9 (hiz), 10 D8 (hiz), 11 D7 (hiz), 12 D6 (hiz), 13 D5 (hiz), 14 D4 (hiz), 15 D3 (hiz), 16 D2 (hiz), 17 D1 (hiz), 18 D0 (hiz), 19 DGND2 (power), 20 V2- (power), 21 ADC IN(20V) (in), 22 ADC IN(10V) (in), 23 BIPO, 24 REF IN (in), 25 AGND2 (power), 26 REF OUT (out), 27 V2+ (power), 28 CE (in), 29 R/~{C} (in), 30 D M (in), 31 ~{CS} (in), 32 BYT SEL (in), 33 S/H CNTL (in), 34 S/HGND2 (in), 35 S/H OUT (out), 36 HLD CAP, 37 S/H OUT (out), 38 NC, 39 S/H IN (in), 40 CH7 (in), 41 CH6 (in), 42 CH5 (in), 43 CH4 (in), 44 CH3 (in), 45 CH2 (in), 46 CH1 (in), 47 CH0 (in), 48 MUX EN (in), 49 MUX ADD0 (in), 50 MUX ADD1 (in), 51 MUX ADD2 (in), 52 MUX ADD3 (in), 53 DGND1 (power), 54 CH8 (in), 55 CH9 (in), 56 CH10 (in), 57 CH11 (in), 58 CH12 (in), 59 CH13 (in), 60 CH14 (in), 61 CH15 (in), 62 RG, 63 G10, 64 G100, 65 MUX O+/AMP IN+ (io), 66 AMP IN- (in), 67 NC, 68 AMP SEN

## SDM862KH
designator U?
16 Single Ended 12-Bit Data Acquisition Systems; Note: Pin 38 is No internal Connection (NC) pin.; Published: 8-Jun-2000; LatestRevisionDate: 06-Jun-2005; LatestRevisionNote: Stylized 3D Model Added.; DatasheetVersion: 1996~1997; PackageReference: 906; Publisher: Altium Limited; PackageDescription: Leadless Chip Carrier; 68 Terminals; Body 24.3 x 24.3 mm; ComponentLink1Description: Manufacturer Link; ComponentLink1URL: http://www.ti.com/
footprint 906 (Leadless Chip Carrier; 68 Terminals; Body 24.3 x 24.3 mm)
3D model SDM862K-LCC68 (Leadless Chip Carrier; 68 Terminals; Body 24.3 x 24.3 mm)
pins: 1 AMP O (out), 2 AMP REF, 3 V1+ (power), 4 V1- (power), 5 VL+ (power), 6 STAT (out), 7 D11 (hiz), 8 D10 (hiz), 9 D9 (hiz), 10 D8 (hiz), 11 D7 (hiz), 12 D6 (hiz), 13 D5 (hiz), 14 D4 (hiz), 15 D3 (hiz), 16 D2 (hiz), 17 D1 (hiz), 18 D0 (hiz), 19 DGND2 (power), 20 V2- (power), 21 ADC IN(20V) (in), 22 ADC IN(10V) (in), 23 BIPO, 24 REF IN (in), 25 AGND2 (power), 26 REF OUT (out), 27 V2+ (power), 28 CE (in), 29 R/~{C} (in), 30 D M (in), 31 ~{CS} (in), 32 BYT SEL (in), 33 S/H CNTL (in), 34 S/HGND2 (in), 35 S/H OUT (out), 36 HLD CAP, 37 S/H OUT (out), 38 NC, 39 S/H IN (in), 40 CH7 (in), 41 CH6 (in), 42 CH5 (in), 43 CH4 (in), 44 CH3 (in), 45 CH2 (in), 46 CH1 (in), 47 CH0 (in), 48 MUX EN (in), 49 MUX ADD0 (in), 50 MUX ADD1 (in), 51 MUX ADD2 (in), 52 MUX ADD3 (in), 53 DGND1 (power), 54 CH8 (in), 55 CH9 (in), 56 CH10 (in), 57 CH11 (in), 58 CH12 (in), 59 CH13 (in), 60 CH14 (in), 61 CH15 (in), 62 RG, 63 G10, 64 G100, 65 MUX O+/AMP IN+ (io), 66 AMP IN- (in), 67 NC, 68 AMP SEN

## SDM862KL
designator U?
16 Single Ended 12-Bit Data Acquisition Systems; Note: Pin 38 is No internal Connection (NC) pin.; Published: 8-Jun-2000; LatestRevisionDate: 06-Jun-2005; LatestRevisionNote: Stylized 3D Model Added.; DatasheetVersion: 1996~1997; PackageReference: ZZ907; Publisher: Altium Limited; PackageDescription: 68-Pin Pin Grid Array 2.54 mm Pitch; ComponentLink1Description: Manufacturer Link; ComponentLink1URL: http://www.ti.com/
footprint ZZ907 (PGA, 68-Leads, Body 28x28mm, Pitch 2.54mm)
3D model SDM862K-PGA68 (68-Pin Pin Grid Array 2.54 mm Pitch)
pins: 1 AMP O (out), 2 AMP REF, 3 V1+ (power), 4 V1- (power), 5 VL+ (power), 6 STAT (out), 7 D11 (hiz), 8 D10 (hiz), 9 D9 (hiz), 10 D8 (hiz), 11 D7 (hiz), 12 D6 (hiz), 13 D5 (hiz), 14 D4 (hiz), 15 D3 (hiz), 16 D2 (hiz), 17 D1 (hiz), 18 D0 (hiz), 19 DGND2 (power), 20 V2- (power), 21 ADC IN(20V) (in), 22 ADC IN(10V) (in), 23 BIPO, 24 REF IN (in), 25 AGND2 (power), 26 REF OUT (out), 27 V2+ (power), 28 CE (in), 29 R/~{C} (in), 30 D M (in), 31 ~{CS} (in), 32 BYT SEL (in), 33 S/H CNTL (in), 34 S/HGND2 (in), 35 S/H OUT (out), 36 HLD CAP, 37 S/H OUT (out), 38 NC, 39 S/H IN (in), 40 CH7 (in), 41 CH6 (in), 42 CH5 (in), 43 CH4 (in), 44 CH3 (in), 45 CH2 (in), 46 CH1 (in), 47 CH0 (in), 48 MUX EN (in), 49 MUX ADD0 (in), 50 MUX ADD1 (in), 51 MUX ADD2 (in), 52 MUX ADD3 (in), 53 DGND1 (power), 54 CH8 (in), 55 CH9 (in), 56 CH10 (in), 57 CH11 (in), 58 CH12 (in), 59 CH13 (in), 60 CH14 (in), 61 CH15 (in), 62 RG, 63 G10, 64 G100, 65 MUX O+/AMP IN+ (io), 66 AMP IN- (in), 67 NC, 68 AMP SEN

## SDM862RH
designator U?
16 Single Ended 12-Bit Data Acquisition Systems; Note: Pin 38 is No internal Connection (NC) pin.; Published: 8-Jun-2000; LatestRevisionDate: 06-Jun-2005; LatestRevisionNote: Stylized 3D Model Added.; DatasheetVersion: 1996~1997; PackageReference: 906; Publisher: Altium Limited; PackageDescription: Leadless Chip Carrier; 68 Terminals; Body 24.3 x 24.3 mm; ComponentLink1Description: Manufacturer Link; ComponentLink1URL: http://www.ti.com/
footprint 906 (Leadless Chip Carrier; 68 Terminals; Body 24.3 x 24.3 mm)
3D model SDM862R-LCC68 (Leadless Chip Carrier; 68 Terminals; Body 24.3 x 24.3 mm)
pins: 1 AMP O (out), 2 AMP REF, 3 V1+ (power), 4 V1- (power), 5 VL+ (power), 6 STAT (out), 7 D11 (hiz), 8 D10 (hiz), 9 D9 (hiz), 10 D8 (hiz), 11 D7 (hiz), 12 D6 (hiz), 13 D5 (hiz), 14 D4 (hiz), 15 D3 (hiz), 16 D2 (hiz), 17 D1 (hiz), 18 D0 (hiz), 19 DGND2 (power), 20 V2- (power), 21 ADC IN(20V) (in), 22 ADC IN(10V) (in), 23 BIPO, 24 REF IN (in), 25 AGND2 (power), 26 REF OUT (out), 27 V2+ (power), 28 CE (in), 29 R/~{C} (in), 30 D M (in), 31 ~{CS} (in), 32 BYT SEL (in), 33 S/H CNTL (in), 34 S/HGND2 (in), 35 S/H OUT (out), 36 HLD CAP, 37 S/H OUT (out), 38 NC, 39 S/H IN (in), 40 CH7 (in), 41 CH6 (in), 42 CH5 (in), 43 CH4 (in), 44 CH3 (in), 45 CH2 (in), 46 CH1 (in), 47 CH0 (in), 48 MUX EN (in), 49 MUX ADD0 (in), 50 MUX ADD1 (in), 51 MUX ADD2 (in), 52 MUX ADD3 (in), 53 DGND1 (power), 54 CH8 (in), 55 CH9 (in), 56 CH10 (in), 57 CH11 (in), 58 CH12 (in), 59 CH13 (in), 60 CH14 (in), 61 CH15 (in), 62 RG, 63 G10, 64 G100, 65 MUX O+/AMP IN+ (io), 66 AMP IN- (in), 67 NC, 68 AMP SEN

## SDM862RL
designator U?
16 Single Ended 12-Bit Data Acquisition Systems; Note: Pin 38 is No internal Connection (NC) pin.; Published: 8-Jun-2000; LatestRevisionDate: 06-Jun-2005; LatestRevisionNote: Stylized 3D Model Added.; DatasheetVersion: 1996~1997; PackageReference: ZZ907; Publisher: Altium Limited; PackageDescription: 68-Pin Pin Grid Array 2.54 mm Pitch; ComponentLink1Description: Manufacturer Link; ComponentLink1URL: http://www.ti.com/
footprint ZZ907 (PGA, 68-Leads, Body 28x28mm, Pitch 2.54mm)
3D model SDM862R-PGA68 (68-Pin Pin Grid Array 2.54 mm Pitch)
pins: 1 AMP O (out), 2 AMP REF, 3 V1+ (power), 4 V1- (power), 5 VL+ (power), 6 STAT (out), 7 D11 (hiz), 8 D10 (hiz), 9 D9 (hiz), 10 D8 (hiz), 11 D7 (hiz), 12 D6 (hiz), 13 D5 (hiz), 14 D4 (hiz), 15 D3 (hiz), 16 D2 (hiz), 17 D1 (hiz), 18 D0 (hiz), 19 DGND2 (power), 20 V2- (power), 21 ADC IN(20V) (in), 22 ADC IN(10V) (in), 23 BIPO, 24 REF IN (in), 25 AGND2 (power), 26 REF OUT (out), 27 V2+ (power), 28 CE (in), 29 R/~{C} (in), 30 D M (in), 31 ~{CS} (in), 32 BYT SEL (in), 33 S/H CNTL (in), 34 S/HGND2 (in), 35 S/H OUT (out), 36 HLD CAP, 37 S/H OUT (out), 38 NC, 39 S/H IN (in), 40 CH7 (in), 41 CH6 (in), 42 CH5 (in), 43 CH4 (in), 44 CH3 (in), 45 CH2 (in), 46 CH1 (in), 47 CH0 (in), 48 MUX EN (in), 49 MUX ADD0 (in), 50 MUX ADD1 (in), 51 MUX ADD2 (in), 52 MUX ADD3 (in), 53 DGND1 (power), 54 CH8 (in), 55 CH9 (in), 56 CH10 (in), 57 CH11 (in), 58 CH12 (in), 59 CH13 (in), 60 CH14 (in), 61 CH15 (in), 62 RG, 63 G10, 64 G100, 65 MUX O+/AMP IN+ (io), 66 AMP IN- (in), 67 NC, 68 AMP SEN

## SDM862SH
designator U?
16 Single Ended 12-Bit Data Acquisition Systems; Note: Pin 38 is No internal Connection (NC) pin.; Published: 8-Jun-2000; LatestRevisionDate: 06-Jun-2005; LatestRevisionNote: Stylized 3D Model Added.; DatasheetVersion: 1996~1997; PackageReference: 906; Publisher: Altium Limited; PackageDescription: Leadless Chip Carrier; 68 Terminals; Body 24.3 x 24.3 mm; ComponentLink1Description: Manufacturer Link; ComponentLink1URL: http://www.ti.com/
footprint 906 (Leadless Chip Carrier; 68 Terminals; Body 24.3 x 24.3 mm)
3D model SDM862S-LCC68 (Leadless Chip Carrier; 68 Terminals; Body 24.3 x 24.3 mm)
pins: 1 AMP O (out), 2 AMP REF, 3 V1+ (power), 4 V1- (power), 5 VL+ (power), 6 STAT (out), 7 D11 (hiz), 8 D10 (hiz), 9 D9 (hiz), 10 D8 (hiz), 11 D7 (hiz), 12 D6 (hiz), 13 D5 (hiz), 14 D4 (hiz), 15 D3 (hiz), 16 D2 (hiz), 17 D1 (hiz), 18 D0 (hiz), 19 DGND2 (power), 20 V2- (power), 21 ADC IN(20V) (in), 22 ADC IN(10V) (in), 23 BIPO, 24 REF IN (in), 25 AGND2 (power), 26 REF OUT (out), 27 V2+ (power), 28 CE (in), 29 R/~{C} (in), 30 D M (in), 31 ~{CS} (in), 32 BYT SEL (in), 33 S/H CNTL (in), 34 S/HGND2 (in), 35 S/H OUT (out), 36 HLD CAP, 37 S/H OUT (out), 38 NC, 39 S/H IN (in), 40 CH7 (in), 41 CH6 (in), 42 CH5 (in), 43 CH4 (in), 44 CH3 (in), 45 CH2 (in), 46 CH1 (in), 47 CH0 (in), 48 MUX EN (in), 49 MUX ADD0 (in), 50 MUX ADD1 (in), 51 MUX ADD2 (in), 52 MUX ADD3 (in), 53 DGND1 (power), 54 CH8 (in), 55 CH9 (in), 56 CH10 (in), 57 CH11 (in), 58 CH12 (in), 59 CH13 (in), 60 CH14 (in), 61 CH15 (in), 62 RG, 63 G10, 64 G100, 65 MUX O+/AMP IN+ (io), 66 AMP IN- (in), 67 NC, 68 AMP SEN

## SDM862SL
designator U?
16 Single Ended 12-Bit Data Acquisition Systems; Note: Pin 38 is No internal Connection (NC) pin.; Published: 8-Jun-2000; LatestRevisionDate: 06-Jun-2005; LatestRevisionNote: Stylized 3D Model Added.; DatasheetVersion: 1996~1997; PackageReference: ZZ907; Publisher: Altium Limited; PackageDescription: 68-Pin Pin Grid Array 2.54 mm Pitch; ComponentLink1Description: Manufacturer Link; ComponentLink1URL: http://www.ti.com/
footprint ZZ907 (PGA, 68-Leads, Body 28x28mm, Pitch 2.54mm)
3D model SDM862S-PGA68 (68-Pin Pin Grid Array 2.54 mm Pitch)
pins: 1 AMP O (out), 2 AMP REF, 3 V1+ (power), 4 V1- (power), 5 VL+ (power), 6 STAT (out), 7 D11 (hiz), 8 D10 (hiz), 9 D9 (hiz), 10 D8 (hiz), 11 D7 (hiz), 12 D6 (hiz), 13 D5 (hiz), 14 D4 (hiz), 15 D3 (hiz), 16 D2 (hiz), 17 D1 (hiz), 18 D0 (hiz), 19 DGND2 (power), 20 V2- (power), 21 ADC IN(20V) (in), 22 ADC IN(10V) (in), 23 BIPO, 24 REF IN (in), 25 AGND2 (power), 26 REF OUT (out), 27 V2+ (power), 28 CE (in), 29 R/~{C} (in), 30 D M (in), 31 ~{CS} (in), 32 BYT SEL (in), 33 S/H CNTL (in), 34 S/HGND2 (in), 35 S/H OUT (out), 36 HLD CAP, 37 S/H OUT (out), 38 NC, 39 S/H IN (in), 40 CH7 (in), 41 CH6 (in), 42 CH5 (in), 43 CH4 (in), 44 CH3 (in), 45 CH2 (in), 46 CH1 (in), 47 CH0 (in), 48 MUX EN (in), 49 MUX ADD0 (in), 50 MUX ADD1 (in), 51 MUX ADD2 (in), 52 MUX ADD3 (in), 53 DGND1 (power), 54 CH8 (in), 55 CH9 (in), 56 CH10 (in), 57 CH11 (in), 58 CH12 (in), 59 CH13 (in), 60 CH14 (in), 61 CH15 (in), 62 RG, 63 G10, 64 G100, 65 MUX O+/AMP IN+ (io), 66 AMP IN- (in), 67 NC, 68 AMP SEN

## SDM863AH
designator U?
8 Differential Input 12-Bit Data Acquisition Systems; Note: Pin 38 is No internal Connection (NC) pin.; Published: 8-Jun-2000; LatestRevisionDate: 06-Jun-2005; LatestRevisionNote: Stylized 3D Model Added.; DatasheetVersion: 1996~1997; PackageReference: 906; Publisher: Altium Limited; PackageDescription: Leadless Chip Carrier; 68 Terminals; Body 24.3 x 24.3 mm; ComponentLink1Description: Manufacturer Link; ComponentLink1URL: http://www.ti.com/
footprint 906 (Leadless Chip Carrier; 68 Terminals; Body 24.3 x 24.3 mm)
3D model SDM863A-LCC68 (Leadless Chip Carrier; 68 Terminals; Body 24.3 x 24.3 mm)
pins: 1 AMP O (out), 2 AMP REF, 3 V1+ (power), 4 V1- (power), 5 VL+ (power), 6 STAT (out), 7 D11 (hiz), 8 D10 (hiz), 9 D9 (hiz), 10 D8 (hiz), 11 D7 (hiz), 12 D6 (hiz), 13 D5 (hiz), 14 D4 (hiz), 15 D3 (hiz), 16 D2 (hiz), 17 D1 (hiz), 18 D0 (hiz), 19 DGND2 (power), 20 V2- (power), 21 ADC IN(20V) (in), 22 ADC IN(10V) (in), 23 BIPO, 24 REF IN (in), 25 AGND2 (power), 26 REF OUT (out), 27 V2+ (power), 28 CE (in), 29 R/~{C} (in), 30 D M (in), 31 ~{CS} (in), 32 BYT SEL (in), 33 S/H CNTL (in), 34 S/HGND2 (in), 35 S/H OUT (out), 36 HLD CAP, 37 S/H OUT (out), 38 NC, 39 S/H IN (in), 40 CH7+ (in), 41 CH6+ (in), 42 CH5+ (in), 43 CH4+ (in), 44 CH3+ (in), 45 CH2+ (in), 46 CH1+ (in), 47 CH0+ (in), 48 MUX EN (in), 49 MUX ADD0 (in), 50 MUX ADD1 (in), 51 MUX ADD2 (in), 52 NC, 53 DGND1 (power), 54 CH0- (in), 55 CH1- (in), 56 CH2- (in), 57 CH3- (in), 58 CH4- (in), 59 CH5- (in), 60 CH6- (in), 61 CH7- (in), 62 RG, 63 G10, 64 G100, 65 MUX O+/AMP IN+ (io), 66 AMP IN- (in), 67 MUX O-, 68 AMP SEN

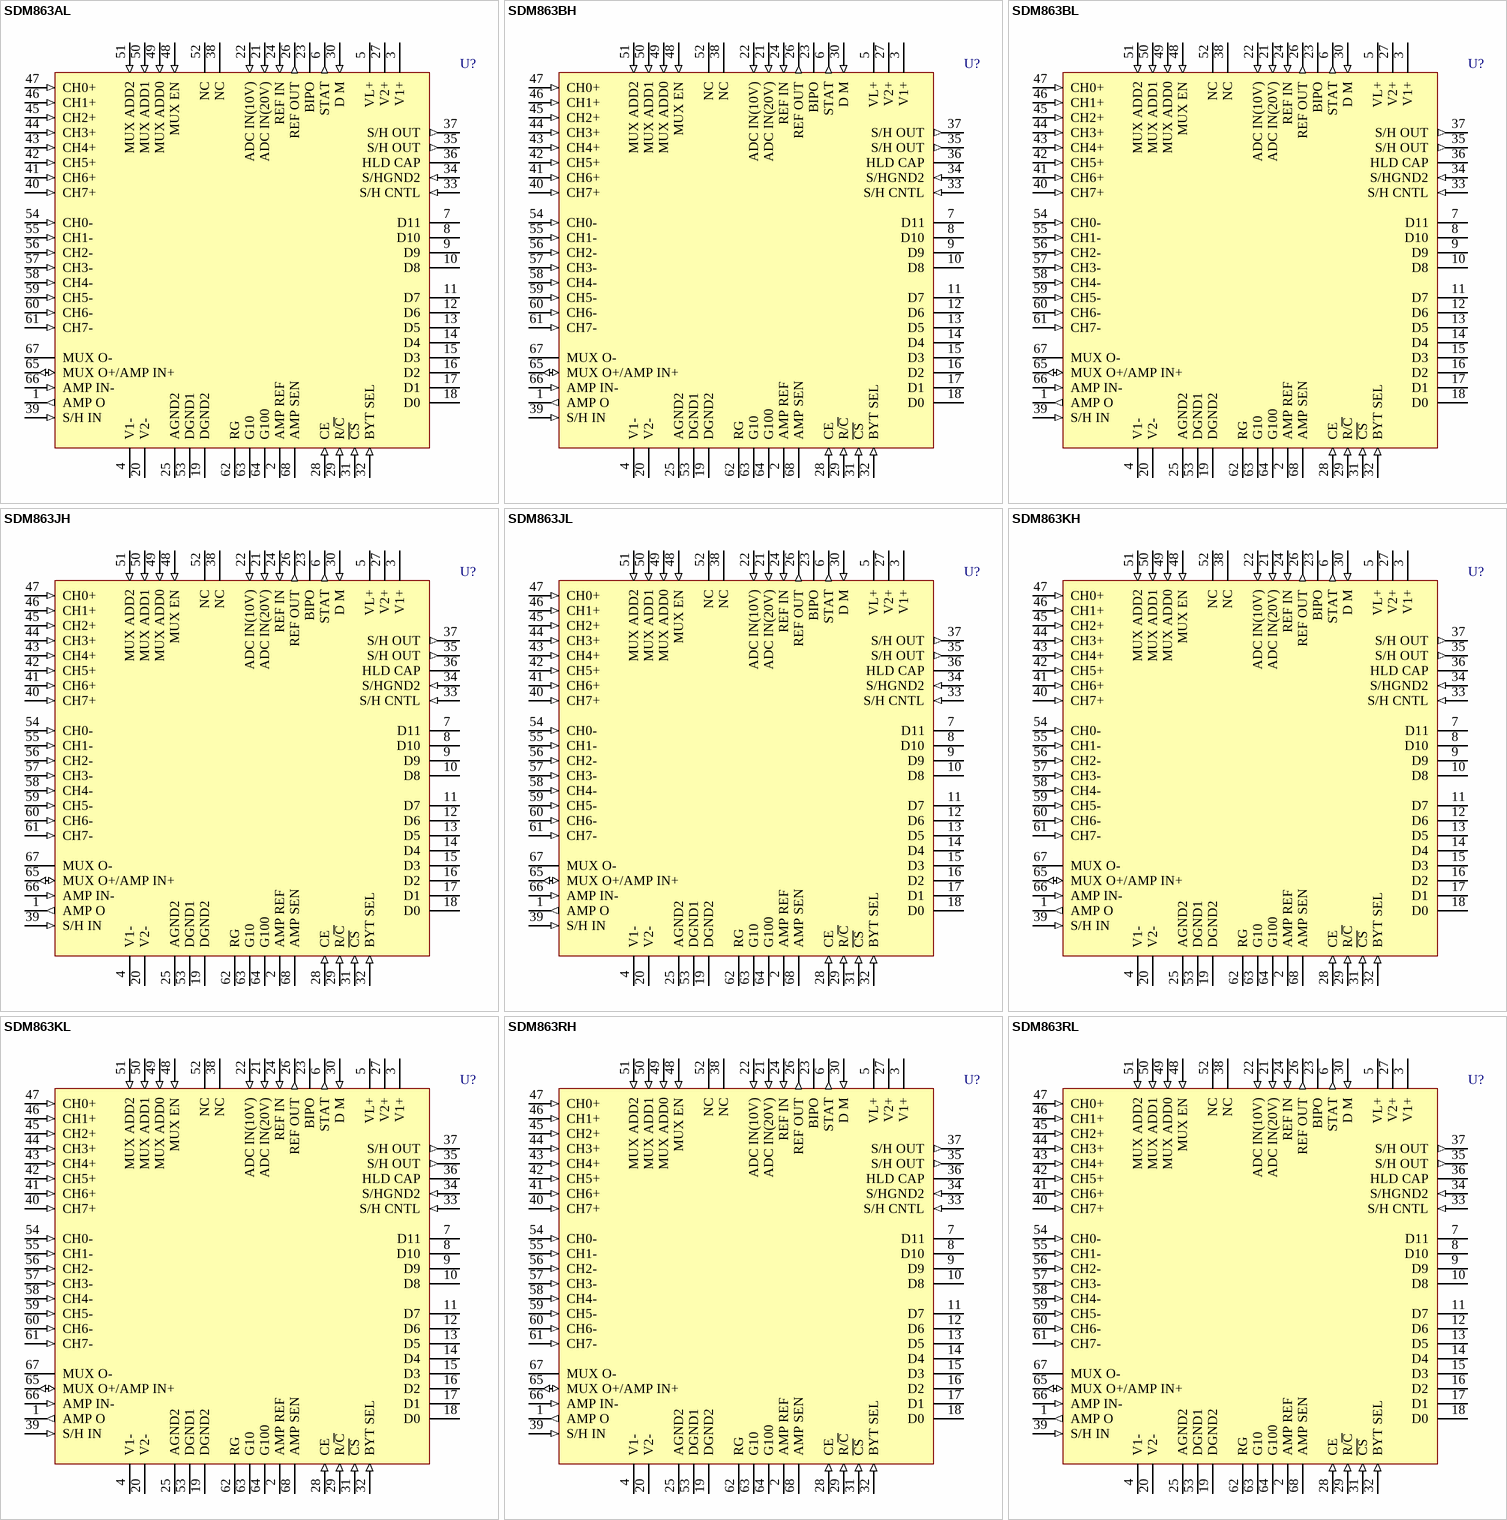
[diagram p3: symbols SDM863AL to SDM863RL]

## SDM863AL
designator U?
8 Differential Input 12-Bit Data Acquisition Systems; Note: Pin 38 is No internal Connection (NC) pin.; Published: 8-Jun-2000; LatestRevisionDate: 06-Jun-2005; LatestRevisionNote: Stylized 3D Model Added.; DatasheetVersion: 1996~1997; PackageReference: ZZ907; Publisher: Altium Limited; PackageDescription: 68-Pin Pin Grid Array 2.54 mm Pitch; ComponentLink1Description: Manufacturer Link; ComponentLink1URL: http://www.ti.com/
footprint ZZ907 (PGA, 68-Leads, Body 28x28mm, Pitch 2.54mm)
3D model SDM863A-PGA68 (68-Pin Pin Grid Array 2.54 mm Pitch)
pins: 1 AMP O (out), 2 AMP REF, 3 V1+ (power), 4 V1- (power), 5 VL+ (power), 6 STAT (out), 7 D11 (hiz), 8 D10 (hiz), 9 D9 (hiz), 10 D8 (hiz), 11 D7 (hiz), 12 D6 (hiz), 13 D5 (hiz), 14 D4 (hiz), 15 D3 (hiz), 16 D2 (hiz), 17 D1 (hiz), 18 D0 (hiz), 19 DGND2 (power), 20 V2- (power), 21 ADC IN(20V) (in), 22 ADC IN(10V) (in), 23 BIPO, 24 REF IN (in), 25 AGND2 (power), 26 REF OUT (out), 27 V2+ (power), 28 CE (in), 29 R/~{C} (in), 30 D M (in), 31 ~{CS} (in), 32 BYT SEL (in), 33 S/H CNTL (in), 34 S/HGND2 (in), 35 S/H OUT (out), 36 HLD CAP, 37 S/H OUT (out), 38 NC, 39 S/H IN (in), 40 CH7+ (in), 41 CH6+ (in), 42 CH5+ (in), 43 CH4+ (in), 44 CH3+ (in), 45 CH2+ (in), 46 CH1+ (in), 47 CH0+ (in), 48 MUX EN (in), 49 MUX ADD0 (in), 50 MUX ADD1 (in), 51 MUX ADD2 (in), 52 NC, 53 DGND1 (power), 54 CH0- (in), 55 CH1- (in), 56 CH2- (in), 57 CH3- (in), 58 CH4- (in), 59 CH5- (in), 60 CH6- (in), 61 CH7- (in), 62 RG, 63 G10, 64 G100, 65 MUX O+/AMP IN+ (io), 66 AMP IN- (in), 67 MUX O-, 68 AMP SEN

## SDM863BH
designator U?
8 Differential Input 12-Bit Data Acquisition Systems; Note: Pin 38 is No internal Connection (NC) pin.; Published: 8-Jun-2000; LatestRevisionDate: 06-Jun-2005; LatestRevisionNote: Stylized 3D Model Added.; DatasheetVersion: 1996~1997; PackageReference: 906; Publisher: Altium Limited; PackageDescription: Leadless Chip Carrier; 68 Terminals; Body 24.3 x 24.3 mm; ComponentLink1Description: Manufacturer Link; ComponentLink1URL: http://www.ti.com/
footprint 906 (Leadless Chip Carrier; 68 Terminals; Body 24.3 x 24.3 mm)
3D model SDM863B-LCC68 (Leadless Chip Carrier; 68 Terminals; Body 24.3 x 24.3 mm)
pins: 1 AMP O (out), 2 AMP REF, 3 V1+ (power), 4 V1- (power), 5 VL+ (power), 6 STAT (out), 7 D11 (hiz), 8 D10 (hiz), 9 D9 (hiz), 10 D8 (hiz), 11 D7 (hiz), 12 D6 (hiz), 13 D5 (hiz), 14 D4 (hiz), 15 D3 (hiz), 16 D2 (hiz), 17 D1 (hiz), 18 D0 (hiz), 19 DGND2 (power), 20 V2- (power), 21 ADC IN(20V) (in), 22 ADC IN(10V) (in), 23 BIPO, 24 REF IN (in), 25 AGND2 (power), 26 REF OUT (out), 27 V2+ (power), 28 CE (in), 29 R/~{C} (in), 30 D M (in), 31 ~{CS} (in), 32 BYT SEL (in), 33 S/H CNTL (in), 34 S/HGND2 (in), 35 S/H OUT (out), 36 HLD CAP, 37 S/H OUT (out), 38 NC, 39 S/H IN (in), 40 CH7+ (in), 41 CH6+ (in), 42 CH5+ (in), 43 CH4+ (in), 44 CH3+ (in), 45 CH2+ (in), 46 CH1+ (in), 47 CH0+ (in), 48 MUX EN (in), 49 MUX ADD0 (in), 50 MUX ADD1 (in), 51 MUX ADD2 (in), 52 NC, 53 DGND1 (power), 54 CH0- (in), 55 CH1- (in), 56 CH2- (in), 57 CH3- (in), 58 CH4- (in), 59 CH5- (in), 60 CH6- (in), 61 CH7- (in), 62 RG, 63 G10, 64 G100, 65 MUX O+/AMP IN+ (io), 66 AMP IN- (in), 67 MUX O-, 68 AMP SEN

## SDM863BL
designator U?
8 Differential Input 12-Bit Data Acquisition Systems; Note: Pin 38 is No internal Connection (NC) pin.; Published: 8-Jun-2000; LatestRevisionDate: 06-Jun-2005; LatestRevisionNote: Stylized 3D Model Added.; DatasheetVersion: 1996~1997; PackageReference: ZZ907; Publisher: Altium Limited; PackageDescription: 68-Pin Pin Grid Array 2.54 mm Pitch; ComponentLink1Description: Manufacturer Link; ComponentLink1URL: http://www.ti.com/
footprint ZZ907 (PGA, 68-Leads, Body 28x28mm, Pitch 2.54mm)
3D model SDM863B-PGA68 (68-Pin Pin Grid Array 2.54 mm Pitch)
pins: 1 AMP O (out), 2 AMP REF, 3 V1+ (power), 4 V1- (power), 5 VL+ (power), 6 STAT (out), 7 D11 (hiz), 8 D10 (hiz), 9 D9 (hiz), 10 D8 (hiz), 11 D7 (hiz), 12 D6 (hiz), 13 D5 (hiz), 14 D4 (hiz), 15 D3 (hiz), 16 D2 (hiz), 17 D1 (hiz), 18 D0 (hiz), 19 DGND2 (power), 20 V2- (power), 21 ADC IN(20V) (in), 22 ADC IN(10V) (in), 23 BIPO, 24 REF IN (in), 25 AGND2 (power), 26 REF OUT (out), 27 V2+ (power), 28 CE (in), 29 R/~{C} (in), 30 D M (in), 31 ~{CS} (in), 32 BYT SEL (in), 33 S/H CNTL (in), 34 S/HGND2 (in), 35 S/H OUT (out), 36 HLD CAP, 37 S/H OUT (out), 38 NC, 39 S/H IN (in), 40 CH7+ (in), 41 CH6+ (in), 42 CH5+ (in), 43 CH4+ (in), 44 CH3+ (in), 45 CH2+ (in), 46 CH1+ (in), 47 CH0+ (in), 48 MUX EN (in), 49 MUX ADD0 (in), 50 MUX ADD1 (in), 51 MUX ADD2 (in), 52 NC, 53 DGND1 (power), 54 CH0- (in), 55 CH1- (in), 56 CH2- (in), 57 CH3- (in), 58 CH4- (in), 59 CH5- (in), 60 CH6- (in), 61 CH7- (in), 62 RG, 63 G10, 64 G100, 65 MUX O+/AMP IN+ (io), 66 AMP IN- (in), 67 MUX O-, 68 AMP SEN

## SDM863JH
designator U?
8 Differential Input 12-Bit Data Acquisition Systems; Note: Pin 38 is No internal Connection (NC) pin.; Published: 8-Jun-2000; LatestRevisionDate: 06-Jun-2005; LatestRevisionNote: Stylized 3D Model Added.; DatasheetVersion: 1996~1997; PackageReference: 906; Publisher: Altium Limited; PackageDescription: Leadless Chip Carrier; 68 Terminals; Body 24.3 x 24.3 mm; ComponentLink1Description: Manufacturer Link; ComponentLink1URL: http://www.ti.com/
footprint 906 (Leadless Chip Carrier; 68 Terminals; Body 24.3 x 24.3 mm)
3D model SDM863J-LCC68 (Leadless Chip Carrier; 68 Terminals; Body 24.3 x 24.3 mm)
pins: 1 AMP O (out), 2 AMP REF, 3 V1+ (power), 4 V1- (power), 5 VL+ (power), 6 STAT (out), 7 D11 (hiz), 8 D10 (hiz), 9 D9 (hiz), 10 D8 (hiz), 11 D7 (hiz), 12 D6 (hiz), 13 D5 (hiz), 14 D4 (hiz), 15 D3 (hiz), 16 D2 (hiz), 17 D1 (hiz), 18 D0 (hiz), 19 DGND2 (power), 20 V2- (power), 21 ADC IN(20V) (in), 22 ADC IN(10V) (in), 23 BIPO, 24 REF IN (in), 25 AGND2 (power), 26 REF OUT (out), 27 V2+ (power), 28 CE (in), 29 R/~{C} (in), 30 D M (in), 31 ~{CS} (in), 32 BYT SEL (in), 33 S/H CNTL (in), 34 S/HGND2 (in), 35 S/H OUT (out), 36 HLD CAP, 37 S/H OUT (out), 38 NC, 39 S/H IN (in), 40 CH7+ (in), 41 CH6+ (in), 42 CH5+ (in), 43 CH4+ (in), 44 CH3+ (in), 45 CH2+ (in), 46 CH1+ (in), 47 CH0+ (in), 48 MUX EN (in), 49 MUX ADD0 (in), 50 MUX ADD1 (in), 51 MUX ADD2 (in), 52 NC, 53 DGND1 (power), 54 CH0- (in), 55 CH1- (in), 56 CH2- (in), 57 CH3- (in), 58 CH4- (in), 59 CH5- (in), 60 CH6- (in), 61 CH7- (in), 62 RG, 63 G10, 64 G100, 65 MUX O+/AMP IN+ (io), 66 AMP IN- (in), 67 MUX O-, 68 AMP SEN

## SDM863JL
designator U?
8 Differential Input 12-Bit Data Acquisition Systems; Note: Pin 38 is No internal Connection (NC) pin.; Published: 8-Jun-2000; LatestRevisionDate: 06-Jun-2005; LatestRevisionNote: Stylized 3D Model Added.; DatasheetVersion: 1996~1997; PackageReference: ZZ907; Publisher: Altium Limited; PackageDescription: 68-Pin Pin Grid Array 2.54 mm Pitch; ComponentLink1Description: Manufacturer Link; ComponentLink1URL: http://www.ti.com/
footprint ZZ907 (PGA, 68-Leads, Body 28x28mm, Pitch 2.54mm)
3D model SDM863J-PGA68 (68-Pin Pin Grid Array 2.54 mm Pitch)
pins: 1 AMP O (out), 2 AMP REF, 3 V1+ (power), 4 V1- (power), 5 VL+ (power), 6 STAT (out), 7 D11 (hiz), 8 D10 (hiz), 9 D9 (hiz), 10 D8 (hiz), 11 D7 (hiz), 12 D6 (hiz), 13 D5 (hiz), 14 D4 (hiz), 15 D3 (hiz), 16 D2 (hiz), 17 D1 (hiz), 18 D0 (hiz), 19 DGND2 (power), 20 V2- (power), 21 ADC IN(20V) (in), 22 ADC IN(10V) (in), 23 BIPO, 24 REF IN (in), 25 AGND2 (power), 26 REF OUT (out), 27 V2+ (power), 28 CE (in), 29 R/~{C} (in), 30 D M (in), 31 ~{CS} (in), 32 BYT SEL (in), 33 S/H CNTL (in), 34 S/HGND2 (in), 35 S/H OUT (out), 36 HLD CAP, 37 S/H OUT (out), 38 NC, 39 S/H IN (in), 40 CH7+ (in), 41 CH6+ (in), 42 CH5+ (in), 43 CH4+ (in), 44 CH3+ (in), 45 CH2+ (in), 46 CH1+ (in), 47 CH0+ (in), 48 MUX EN (in), 49 MUX ADD0 (in), 50 MUX ADD1 (in), 51 MUX ADD2 (in), 52 NC, 53 DGND1 (power), 54 CH0- (in), 55 CH1- (in), 56 CH2- (in), 57 CH3- (in), 58 CH4- (in), 59 CH5- (in), 60 CH6- (in), 61 CH7- (in), 62 RG, 63 G10, 64 G100, 65 MUX O+/AMP IN+ (io), 66 AMP IN- (in), 67 MUX O-, 68 AMP SEN

## SDM863KH
designator U?
8 Differential Input 12-Bit Data Acquisition Systems; Note: Pin 38 is No internal Connection (NC) pin.; Published: 8-Jun-2000; LatestRevisionDate: 06-Jun-2005; LatestRevisionNote: Stylized 3D Model Added.; DatasheetVersion: 1996~1997; PackageReference: 906; Publisher: Altium Limited; PackageDescription: Leadless Chip Carrier; 68 Terminals; Body 24.3 x 24.3 mm; ComponentLink1Description: Manufacturer Link; ComponentLink1URL: http://www.ti.com/
footprint 906 (Leadless Chip Carrier; 68 Terminals; Body 24.3 x 24.3 mm)
3D model SDM863K-LCC68 (Leadless Chip Carrier; 68 Terminals; Body 24.3 x 24.3 mm)
pins: 1 AMP O (out), 2 AMP REF, 3 V1+ (power), 4 V1- (power), 5 VL+ (power), 6 STAT (out), 7 D11 (hiz), 8 D10 (hiz), 9 D9 (hiz), 10 D8 (hiz), 11 D7 (hiz), 12 D6 (hiz), 13 D5 (hiz), 14 D4 (hiz), 15 D3 (hiz), 16 D2 (hiz), 17 D1 (hiz), 18 D0 (hiz), 19 DGND2 (power), 20 V2- (power), 21 ADC IN(20V) (in), 22 ADC IN(10V) (in), 23 BIPO, 24 REF IN (in), 25 AGND2 (power), 26 REF OUT (out), 27 V2+ (power), 28 CE (in), 29 R/~{C} (in), 30 D M (in), 31 ~{CS} (in), 32 BYT SEL (in), 33 S/H CNTL (in), 34 S/HGND2 (in), 35 S/H OUT (out), 36 HLD CAP, 37 S/H OUT (out), 38 NC, 39 S/H IN (in), 40 CH7+ (in), 41 CH6+ (in), 42 CH5+ (in), 43 CH4+ (in), 44 CH3+ (in), 45 CH2+ (in), 46 CH1+ (in), 47 CH0+ (in), 48 MUX EN (in), 49 MUX ADD0 (in), 50 MUX ADD1 (in), 51 MUX ADD2 (in), 52 NC, 53 DGND1 (power), 54 CH0- (in), 55 CH1- (in), 56 CH2- (in), 57 CH3- (in), 58 CH4- (in), 59 CH5- (in), 60 CH6- (in), 61 CH7- (in), 62 RG, 63 G10, 64 G100, 65 MUX O+/AMP IN+ (io), 66 AMP IN- (in), 67 MUX O-, 68 AMP SEN

## SDM863KL
designator U?
8 Differential Input 12-Bit Data Acquisition Systems; Note: Pin 38 is No internal Connection (NC) pin.; Published: 8-Jun-2000; LatestRevisionDate: 06-Jun-2005; LatestRevisionNote: Stylized 3D Model Added.; DatasheetVersion: 1996~1997; PackageReference: ZZ907; Publisher: Altium Limited; PackageDescription: 68-Pin Pin Grid Array 2.54 mm Pitch; ComponentLink1Description: Manufacturer Link; ComponentLink1URL: http://www.ti.com/
footprint ZZ907 (PGA, 68-Leads, Body 28x28mm, Pitch 2.54mm)
3D model SDM863K-PGA68 (68-Pin Pin Grid Array 2.54 mm Pitch)
pins: 1 AMP O (out), 2 AMP REF, 3 V1+ (power), 4 V1- (power), 5 VL+ (power), 6 STAT (out), 7 D11 (hiz), 8 D10 (hiz), 9 D9 (hiz), 10 D8 (hiz), 11 D7 (hiz), 12 D6 (hiz), 13 D5 (hiz), 14 D4 (hiz), 15 D3 (hiz), 16 D2 (hiz), 17 D1 (hiz), 18 D0 (hiz), 19 DGND2 (power), 20 V2- (power), 21 ADC IN(20V) (in), 22 ADC IN(10V) (in), 23 BIPO, 24 REF IN (in), 25 AGND2 (power), 26 REF OUT (out), 27 V2+ (power), 28 CE (in), 29 R/~{C} (in), 30 D M (in), 31 ~{CS} (in), 32 BYT SEL (in), 33 S/H CNTL (in), 34 S/HGND2 (in), 35 S/H OUT (out), 36 HLD CAP, 37 S/H OUT (out), 38 NC, 39 S/H IN (in), 40 CH7+ (in), 41 CH6+ (in), 42 CH5+ (in), 43 CH4+ (in), 44 CH3+ (in), 45 CH2+ (in), 46 CH1+ (in), 47 CH0+ (in), 48 MUX EN (in), 49 MUX ADD0 (in), 50 MUX ADD1 (in), 51 MUX ADD2 (in), 52 NC, 53 DGND1 (power), 54 CH0- (in), 55 CH1- (in), 56 CH2- (in), 57 CH3- (in), 58 CH4- (in), 59 CH5- (in), 60 CH6- (in), 61 CH7- (in), 62 RG, 63 G10, 64 G100, 65 MUX O+/AMP IN+ (io), 66 AMP IN- (in), 67 MUX O-, 68 AMP SEN

## SDM863RH
designator U?
8 Differential Input 12-Bit Data Acquisition Systems; Note: Pin 38 is No internal Connection (NC) pin.; Published: 8-Jun-2000; LatestRevisionDate: 06-Jun-2005; LatestRevisionNote: Stylized 3D Model Added.; DatasheetVersion: 1996~1997; PackageReference: 906; Publisher: Altium Limited; PackageDescription: Leadless Chip Carrier; 68 Terminals; Body 24.3 x 24.3 mm; ComponentLink1Description: Manufacturer Link; ComponentLink1URL: http://www.ti.com/
footprint 906 (Leadless Chip Carrier; 68 Terminals; Body 24.3 x 24.3 mm)
3D model SDM863R-LCC68 (Leadless Chip Carrier; 68 Terminals; Body 24.3 x 24.3 mm)
pins: 1 AMP O (out), 2 AMP REF, 3 V1+ (power), 4 V1- (power), 5 VL+ (power), 6 STAT (out), 7 D11 (hiz), 8 D10 (hiz), 9 D9 (hiz), 10 D8 (hiz), 11 D7 (hiz), 12 D6 (hiz), 13 D5 (hiz), 14 D4 (hiz), 15 D3 (hiz), 16 D2 (hiz), 17 D1 (hiz), 18 D0 (hiz), 19 DGND2 (power), 20 V2- (power), 21 ADC IN(20V) (in), 22 ADC IN(10V) (in), 23 BIPO, 24 REF IN (in), 25 AGND2 (power), 26 REF OUT (out), 27 V2+ (power), 28 CE (in), 29 R/~{C} (in), 30 D M (in), 31 ~{CS} (in), 32 BYT SEL (in), 33 S/H CNTL (in), 34 S/HGND2 (in), 35 S/H OUT (out), 36 HLD CAP, 37 S/H OUT (out), 38 NC, 39 S/H IN (in), 40 CH7+ (in), 41 CH6+ (in), 42 CH5+ (in), 43 CH4+ (in), 44 CH3+ (in), 45 CH2+ (in), 46 CH1+ (in), 47 CH0+ (in), 48 MUX EN (in), 49 MUX ADD0 (in), 50 MUX ADD1 (in), 51 MUX ADD2 (in), 52 NC, 53 DGND1 (power), 54 CH0- (in), 55 CH1- (in), 56 CH2- (in), 57 CH3- (in), 58 CH4- (in), 59 CH5- (in), 60 CH6- (in), 61 CH7- (in), 62 RG, 63 G10, 64 G100, 65 MUX O+/AMP IN+ (io), 66 AMP IN- (in), 67 MUX O-, 68 AMP SEN

## SDM863RL
designator U?
8 Differential Input 12-Bit Data Acquisition Systems; Note: Pin 38 is No internal Connection (NC) pin.; Published: 8-Jun-2000; LatestRevisionDate: 06-Jun-2005; LatestRevisionNote: Stylized 3D Model Added.; DatasheetVersion: 1996~1997; PackageReference: ZZ907; Publisher: Altium Limited; PackageDescription: 68-Pin Pin Grid Array 2.54 mm Pitch; ComponentLink1Description: Manufacturer Link; ComponentLink1URL: http://www.ti.com/
footprint ZZ907 (PGA, 68-Leads, Body 28x28mm, Pitch 2.54mm)
3D model SDM863R-PGA68 (68-Pin Pin Grid Array 2.54 mm Pitch)
pins: 1 AMP O (out), 2 AMP REF, 3 V1+ (power), 4 V1- (power), 5 VL+ (power), 6 STAT (out), 7 D11 (hiz), 8 D10 (hiz), 9 D9 (hiz), 10 D8 (hiz), 11 D7 (hiz), 12 D6 (hiz), 13 D5 (hiz), 14 D4 (hiz), 15 D3 (hiz), 16 D2 (hiz), 17 D1 (hiz), 18 D0 (hiz), 19 DGND2 (power), 20 V2- (power), 21 ADC IN(20V) (in), 22 ADC IN(10V) (in), 23 BIPO, 24 REF IN (in), 25 AGND2 (power), 26 REF OUT (out), 27 V2+ (power), 28 CE (in), 29 R/~{C} (in), 30 D M (in), 31 ~{CS} (in), 32 BYT SEL (in), 33 S/H CNTL (in), 34 S/HGND2 (in), 35 S/H OUT (out), 36 HLD CAP, 37 S/H OUT (out), 38 NC, 39 S/H IN (in), 40 CH7+ (in), 41 CH6+ (in), 42 CH5+ (in), 43 CH4+ (in), 44 CH3+ (in), 45 CH2+ (in), 46 CH1+ (in), 47 CH0+ (in), 48 MUX EN (in), 49 MUX ADD0 (in), 50 MUX ADD1 (in), 51 MUX ADD2 (in), 52 NC, 53 DGND1 (power), 54 CH0- (in), 55 CH1- (in), 56 CH2- (in), 57 CH3- (in), 58 CH4- (in), 59 CH5- (in), 60 CH6- (in), 61 CH7- (in), 62 RG, 63 G10, 64 G100, 65 MUX O+/AMP IN+ (io), 66 AMP IN- (in), 67 MUX O-, 68 AMP SEN

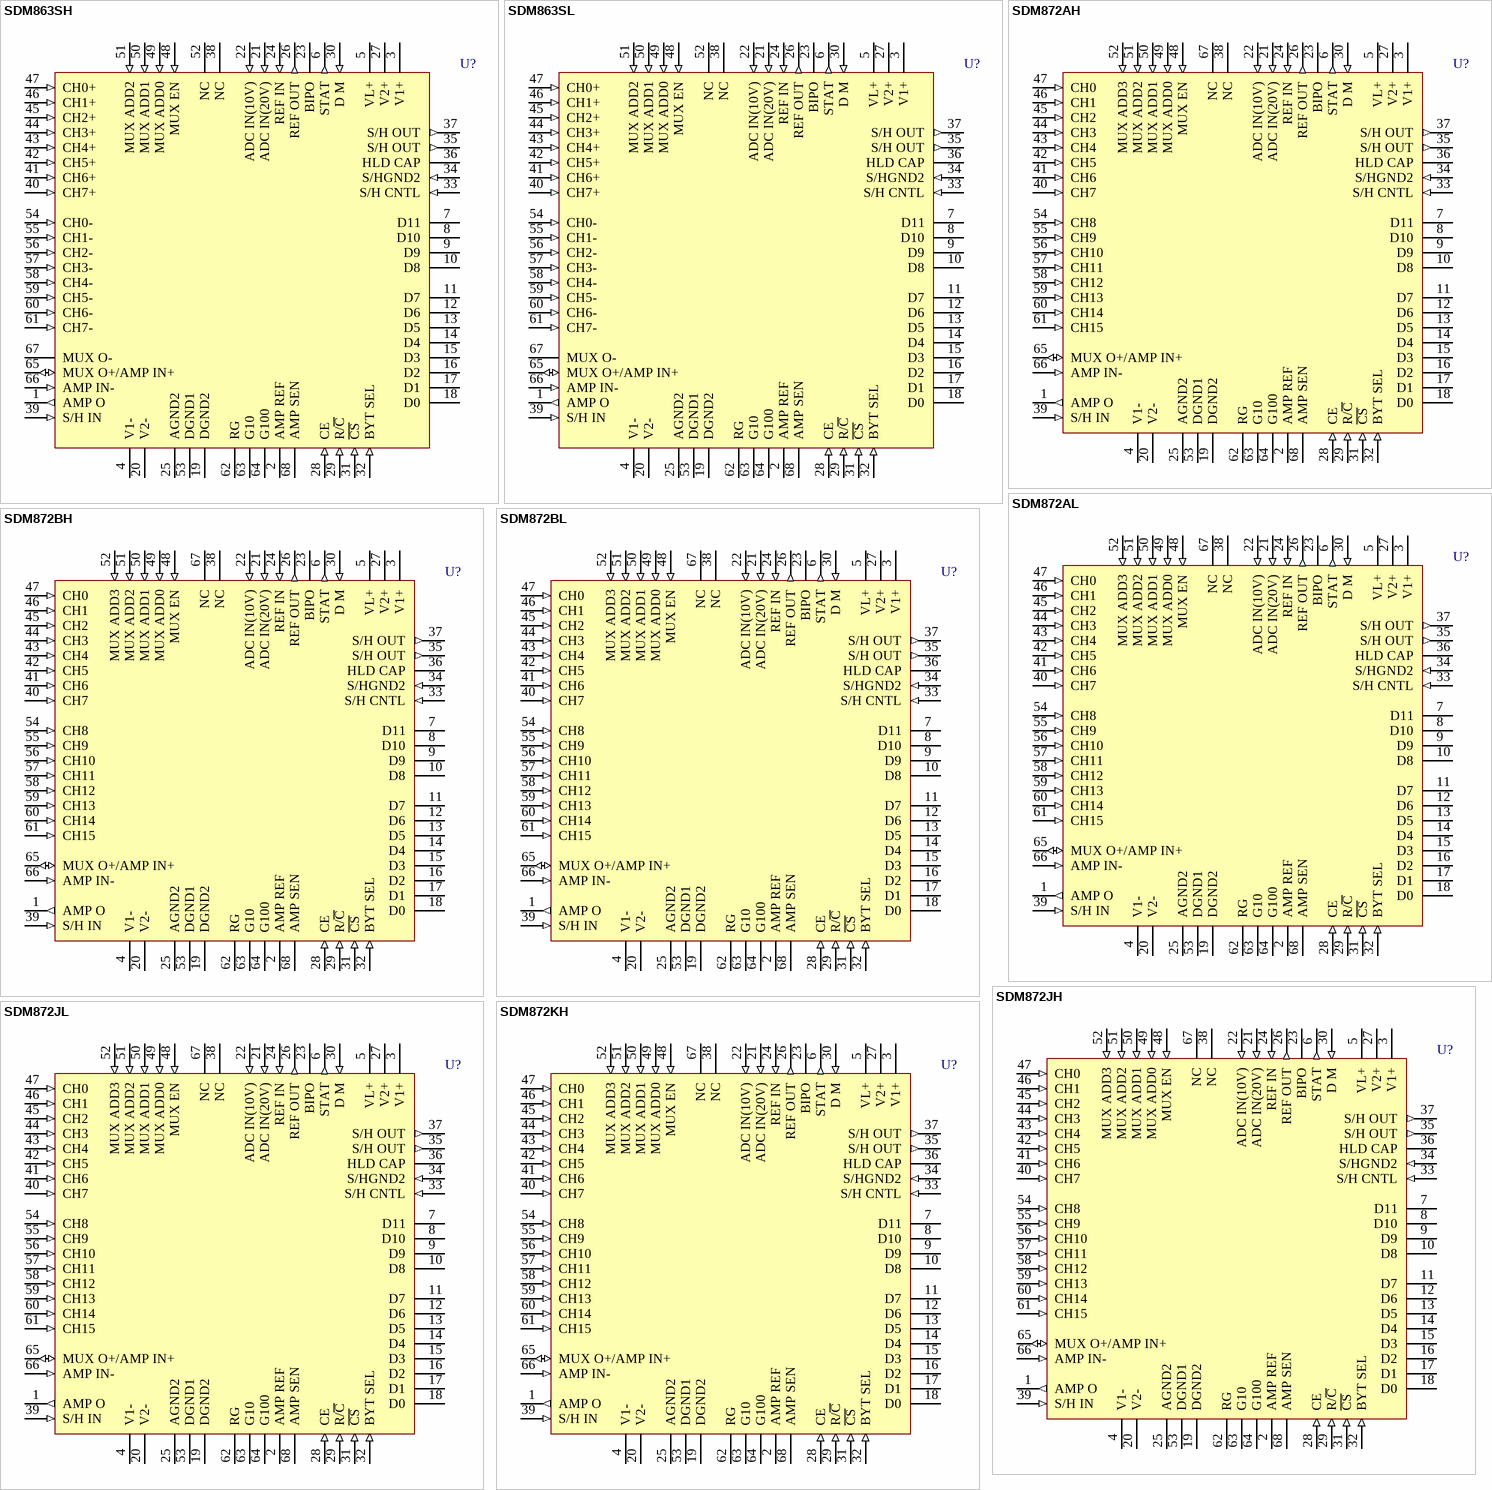
[diagram p4: symbols SDM863SH to SDM872KH]

## SDM863SH
designator U?
8 Differential Input 12-Bit Data Acquisition Systems; Note: Pin 38 is No internal Connection (NC) pin.; Published: 8-Jun-2000; LatestRevisionDate: 06-Jun-2005; LatestRevisionNote: Stylized 3D Model Added.; DatasheetVersion: 1996~1997; PackageReference: 906; Publisher: Altium Limited; PackageDescription: Leadless Chip Carrier; 68 Terminals; Body 24.3 x 24.3 mm; ComponentLink1Description: Manufacturer Link; ComponentLink1URL: http://www.ti.com/
footprint 906 (Leadless Chip Carrier; 68 Terminals; Body 24.3 x 24.3 mm)
3D model SDM863S-LCC68 (Leadless Chip Carrier; 68 Terminals; Body 24.3 x 24.3 mm)
pins: 1 AMP O (out), 2 AMP REF, 3 V1+ (power), 4 V1- (power), 5 VL+ (power), 6 STAT (out), 7 D11 (hiz), 8 D10 (hiz), 9 D9 (hiz), 10 D8 (hiz), 11 D7 (hiz), 12 D6 (hiz), 13 D5 (hiz), 14 D4 (hiz), 15 D3 (hiz), 16 D2 (hiz), 17 D1 (hiz), 18 D0 (hiz), 19 DGND2 (power), 20 V2- (power), 21 ADC IN(20V) (in), 22 ADC IN(10V) (in), 23 BIPO, 24 REF IN (in), 25 AGND2 (power), 26 REF OUT (out), 27 V2+ (power), 28 CE (in), 29 R/~{C} (in), 30 D M (in), 31 ~{CS} (in), 32 BYT SEL (in), 33 S/H CNTL (in), 34 S/HGND2 (in), 35 S/H OUT (out), 36 HLD CAP, 37 S/H OUT (out), 38 NC, 39 S/H IN (in), 40 CH7+ (in), 41 CH6+ (in), 42 CH5+ (in), 43 CH4+ (in), 44 CH3+ (in), 45 CH2+ (in), 46 CH1+ (in), 47 CH0+ (in), 48 MUX EN (in), 49 MUX ADD0 (in), 50 MUX ADD1 (in), 51 MUX ADD2 (in), 52 NC, 53 DGND1 (power), 54 CH0- (in), 55 CH1- (in), 56 CH2- (in), 57 CH3- (in), 58 CH4- (in), 59 CH5- (in), 60 CH6- (in), 61 CH7- (in), 62 RG, 63 G10, 64 G100, 65 MUX O+/AMP IN+ (io), 66 AMP IN- (in), 67 MUX O-, 68 AMP SEN